# Altium schematic symbol library MCU_Microchip_PIC16.SchLib: 258 symbols (part 2 of 4)
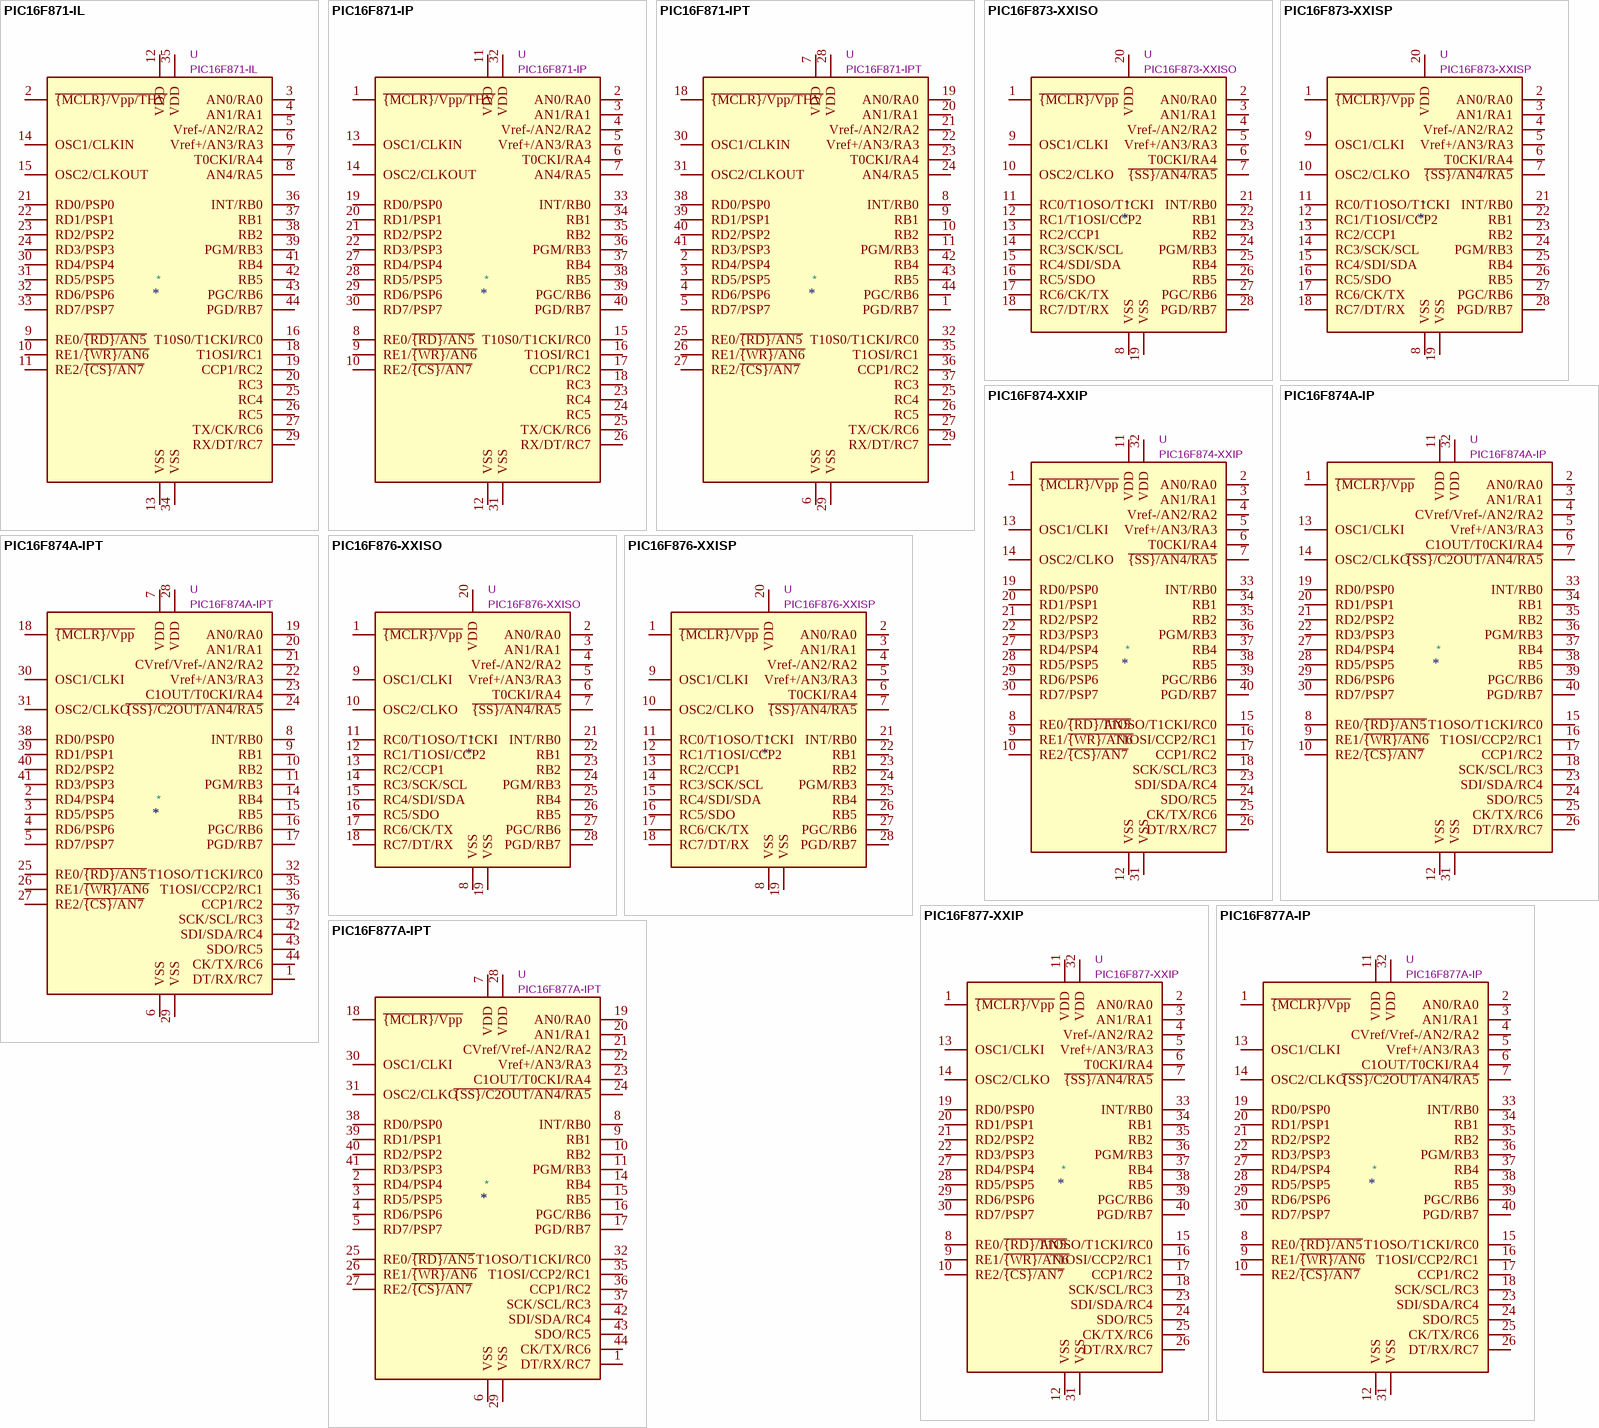
[diagram p20: symbols PIC16F871-IL to PIC16F877A-IPT]

## PIC16F873-XXISO
designator *  value PIC16F873-XXISO  Reference: U
ki_keywords: Flash-Based 8-Bit CMOS Microcontroller; ki_description: PIC16F873, 4K Flash, 192B SRAM, 128B EEPROM, SOIC28; ki_fp_filters: SO*; Datasheet: http://ww1.microchip.com/downloads/en/DeviceDoc/30292C.pdf
pins: 1 ~{{MCLR}/Vpp}, 2 AN0/RA0, 3 AN1/RA1, 4 Vref-/AN2/RA2, 5 Vref+/AN3/RA3, 6 T0CKI/RA4, 7 ~{{SS}/AN4/RA5}, 8 VSS, 9 OSC1/CLKI, 10 OSC2/CLKO, 11 RC0/T1OSO/T1CKI, 12 RC1/T1OSI/CCP2, 13 RC2/CCP1, 14 RC3/SCK/SCL, 15 RC4/SDI/SDA, 16 RC5/SDO, 17 RC6/CK/TX, 18 RC7/DT/RX, 19 VSS, 20 VDD, 21 INT/RB0, 22 RB1, 23 RB2, 24 PGM/RB3, 25 RB4, 26 RB5, 27 PGC/RB6, 28 PGD/RB7

## PIC16F873-XXISP
designator *  value PIC16F873-XXISP  Reference: U
ki_keywords: Flash-Based 8-Bit CMOS Microcontroller; ki_description: PIC16F873,  4K Flash, 192B SRAM, 128B EEPROM, SDIP28; ki_fp_filters: DIP* PDIP*; Datasheet: http://ww1.microchip.com/downloads/en/DeviceDoc/30292C.pdf
pins: 1 ~{{MCLR}/Vpp}, 2 AN0/RA0, 3 AN1/RA1, 4 Vref-/AN2/RA2, 5 Vref+/AN3/RA3, 6 T0CKI/RA4, 7 ~{{SS}/AN4/RA5}, 8 VSS, 9 OSC1/CLKI, 10 OSC2/CLKO, 11 RC0/T1OSO/T1CKI, 12 RC1/T1OSI/CCP2, 13 RC2/CCP1, 14 RC3/SCK/SCL, 15 RC4/SDI/SDA, 16 RC5/SDO, 17 RC6/CK/TX, 18 RC7/DT/RX, 19 VSS, 20 VDD, 21 INT/RB0, 22 RB1, 23 RB2, 24 PGM/RB3, 25 RB4, 26 RB5, 27 PGC/RB6, 28 PGD/RB7

## PIC16F874-XXIP
designator *  value PIC16F874-XXIP  Reference: U
ki_keywords: Flash-Based 8-Bit CMOS Microcontroller; ki_description: PIC16F874, 4K Flash, 192B SRAM, 128B EEPROM, DIP40; ki_fp_filters: DIP* PDIP*; Datasheet: http://ww1.microchip.com/downloads/en/DeviceDoc/30292C.pdf
pins: 1 ~{{MCLR}/Vpp}, 2 AN0/RA0, 3 AN1/RA1, 4 Vref-/AN2/RA2, 5 Vref+/AN3/RA3, 6 T0CKI/RA4, 7 ~{{SS}/AN4/RA5}, 8 RE0/~{{RD}/AN5}, 9 RE1/~{{WR}/AN6}, 10 RE2/~{{CS}/AN7}, 11 VDD, 12 VSS, 13 OSC1/CLKI, 14 OSC2/CLKO, 15 T1OSO/T1CKI/RC0, 16 T1OSI/CCP2/RC1, 17 CCP1/RC2, 18 SCK/SCL/RC3, 19 RD0/PSP0, 20 RD1/PSP1, 21 RD2/PSP2, 22 RD3/PSP3, 23 SDI/SDA/RC4, 24 SDO/RC5, 25 CK/TX/RC6, 26 DT/RX/RC7, 27 RD4/PSP4, 28 RD5/PSP5, 29 RD6/PSP6, 30 RD7/PSP7, 31 VSS, 32 VDD, 33 INT/RB0, 34 RB1, 35 RB2, 36 PGM/RB3, 37 RB4, 38 RB5, 39 PGC/RB6, 40 PGD/RB7

## PIC16F874A-IP
designator *  value PIC16F874A-IP  Reference: U
ki_keywords: Flash-Based 8-Bit CMOS Microcontroller; ki_description: 4W Flash, 192B SRAM, 128B EEPROM, DIP40; ki_fp_filters: DIP* PDIP*; Datasheet: http://ww1.microchip.com/downloads/en/DeviceDoc/39582b.pdf
pins: 1 ~{{MCLR}/Vpp}, 2 AN0/RA0, 3 AN1/RA1, 4 CVref/Vref-/AN2/RA2, 5 Vref+/AN3/RA3, 6 C1OUT/T0CKI/RA4, 7 ~{{SS}/C2OUT/AN4/RA5}, 8 RE0/~{{RD}/AN5}, 9 RE1/~{{WR}/AN6}, 10 RE2/~{{CS}/AN7}, 11 VDD, 12 VSS, 13 OSC1/CLKI, 14 OSC2/CLKO, 15 T1OSO/T1CKI/RC0, 16 T1OSI/CCP2/RC1, 17 CCP1/RC2, 18 SCK/SCL/RC3, 19 RD0/PSP0, 20 RD1/PSP1, 21 RD2/PSP2, 22 RD3/PSP3, 23 SDI/SDA/RC4, 24 SDO/RC5, 25 CK/TX/RC6, 26 DT/RX/RC7, 27 RD4/PSP4, 28 RD5/PSP5, 29 RD6/PSP6, 30 RD7/PSP7, 31 VSS, 32 VDD, 33 INT/RB0, 34 RB1, 35 RB2, 36 PGM/RB3, 37 RB4, 38 RB5, 39 PGC/RB6, 40 PGD/RB7

## PIC16F874A-IPT
designator *  value PIC16F874A-IPT  Reference: U
ki_keywords: Flash-Based 8-Bit CMOS Microcontroller; ki_description: PIC16F874A, 4W Flash, 192B SRAM, 128B EEPROM, TQFP44; ki_fp_filters: TQFP*; Datasheet: http://ww1.microchip.com/downloads/en/DeviceDoc/39582b.pdf
pins: 1 DT/RX/RC7, 2 RD4/PSP4, 3 RD5/PSP5, 4 RD6/PSP6, 5 RD7/PSP7, 6 VSS, 7 VDD, 8 INT/RB0, 9 RB1, 10 RB2, 11 PGM/RB3, 14 RB4, 15 RB5, 16 PGC/RB6, 17 PGD/RB7, 18 ~{{MCLR}/Vpp}, 19 AN0/RA0, 20 AN1/RA1, 21 CVref/Vref-/AN2/RA2, 22 Vref+/AN3/RA3, 23 C1OUT/T0CKI/RA4, 24 ~{{SS}/C2OUT/AN4/RA5}, 25 RE0/~{{RD}/AN5}, 26 RE1/~{{WR}/AN6}, 27 RE2/~{{CS}/AN7}, 28 VDD, 29 VSS, 30 OSC1/CLKI, 31 OSC2/CLKO, 32 T1OSO/T1CKI/RC0, 35 T1OSI/CCP2/RC1, 36 CCP1/RC2, 37 SCK/SCL/RC3, 38 RD0/PSP0, 39 RD1/PSP1, 40 RD2/PSP2, 41 RD3/PSP3, 42 SDI/SDA/RC4, 43 SDO/RC5, 44 CK/TX/RC6

## PIC16F876-XXISO
designator *  value PIC16F876-XXISO  Reference: U
ki_keywords: Flash-Based 8-Bit CMOS Microcontroller; ki_description: PIC16F876, 8K Flash, 386B SRAM, 256B EEPROM, SOIC28; ki_fp_filters: SO*; Datasheet: http://ww1.microchip.com/downloads/en/DeviceDoc/30292C.pdf
pins: 1 ~{{MCLR}/Vpp}, 2 AN0/RA0, 3 AN1/RA1, 4 Vref-/AN2/RA2, 5 Vref+/AN3/RA3, 6 T0CKI/RA4, 7 ~{{SS}/AN4/RA5}, 8 VSS, 9 OSC1/CLKI, 10 OSC2/CLKO, 11 RC0/T1OSO/T1CKI, 12 RC1/T1OSI/CCP2, 13 RC2/CCP1, 14 RC3/SCK/SCL, 15 RC4/SDI/SDA, 16 RC5/SDO, 17 RC6/CK/TX, 18 RC7/DT/RX, 19 VSS, 20 VDD, 21 INT/RB0, 22 RB1, 23 RB2, 24 PGM/RB3, 25 RB4, 26 RB5, 27 PGC/RB6, 28 PGD/RB7

## PIC16F876-XXISP
designator *  value PIC16F876-XXISP  Reference: U
ki_keywords: Flash-Based 8-Bit CMOS Microcontroller; ki_description: PIC16F876, 8K Flash, 386B SRAM, 256B EEPROM, SDIP28; ki_fp_filters: DIP* PDIP*; Datasheet: http://ww1.microchip.com/downloads/en/DeviceDoc/30292C.pdf
pins: 1 ~{{MCLR}/Vpp}, 2 AN0/RA0, 3 AN1/RA1, 4 Vref-/AN2/RA2, 5 Vref+/AN3/RA3, 6 T0CKI/RA4, 7 ~{{SS}/AN4/RA5}, 8 VSS, 9 OSC1/CLKI, 10 OSC2/CLKO, 11 RC0/T1OSO/T1CKI, 12 RC1/T1OSI/CCP2, 13 RC2/CCP1, 14 RC3/SCK/SCL, 15 RC4/SDI/SDA, 16 RC5/SDO, 17 RC6/CK/TX, 18 RC7/DT/RX, 19 VSS, 20 VDD, 21 INT/RB0, 22 RB1, 23 RB2, 24 PGM/RB3, 25 RB4, 26 RB5, 27 PGC/RB6, 28 PGD/RB7

## PIC16F877-XXIP
designator *  value PIC16F877-XXIP  Reference: U
ki_keywords: Flash-Based 8-Bit CMOS Microcontroller; ki_description: PIC16F877, 8K Flash, 386B SRAM, 256B EEPROM, DIP40; ki_fp_filters: DIP* PDIP*; Datasheet: http://ww1.microchip.com/downloads/en/DeviceDoc/30292C.pdf
pins: 1 ~{{MCLR}/Vpp}, 2 AN0/RA0, 3 AN1/RA1, 4 Vref-/AN2/RA2, 5 Vref+/AN3/RA3, 6 T0CKI/RA4, 7 ~{{SS}/AN4/RA5}, 8 RE0/~{{RD}/AN5}, 9 RE1/~{{WR}/AN6}, 10 RE2/~{{CS}/AN7}, 11 VDD, 12 VSS, 13 OSC1/CLKI, 14 OSC2/CLKO, 15 T1OSO/T1CKI/RC0, 16 T1OSI/CCP2/RC1, 17 CCP1/RC2, 18 SCK/SCL/RC3, 19 RD0/PSP0, 20 RD1/PSP1, 21 RD2/PSP2, 22 RD3/PSP3, 23 SDI/SDA/RC4, 24 SDO/RC5, 25 CK/TX/RC6, 26 DT/RX/RC7, 27 RD4/PSP4, 28 RD5/PSP5, 29 RD6/PSP6, 30 RD7/PSP7, 31 VSS, 32 VDD, 33 INT/RB0, 34 RB1, 35 RB2, 36 PGM/RB3, 37 RB4, 38 RB5, 39 PGC/RB6, 40 PGD/RB7

## PIC16F877A-IP
designator *  value PIC16F877A-IP  Reference: U
ki_keywords: Flash-Based 8-Bit CMOS Microcontroller; ki_description: 8W Flash, 386B SRAM, 256B EEPROM, DIP40; ki_fp_filters: DIP* PDIP*; Datasheet: http://ww1.microchip.com/downloads/en/DeviceDoc/39582b.pdf
pins: 1 ~{{MCLR}/Vpp}, 2 AN0/RA0, 3 AN1/RA1, 4 CVref/Vref-/AN2/RA2, 5 Vref+/AN3/RA3, 6 C1OUT/T0CKI/RA4, 7 ~{{SS}/C2OUT/AN4/RA5}, 8 RE0/~{{RD}/AN5}, 9 RE1/~{{WR}/AN6}, 10 RE2/~{{CS}/AN7}, 11 VDD, 12 VSS, 13 OSC1/CLKI, 14 OSC2/CLKO, 15 T1OSO/T1CKI/RC0, 16 T1OSI/CCP2/RC1, 17 CCP1/RC2, 18 SCK/SCL/RC3, 19 RD0/PSP0, 20 RD1/PSP1, 21 RD2/PSP2, 22 RD3/PSP3, 23 SDI/SDA/RC4, 24 SDO/RC5, 25 CK/TX/RC6, 26 DT/RX/RC7, 27 RD4/PSP4, 28 RD5/PSP5, 29 RD6/PSP6, 30 RD7/PSP7, 31 VSS, 32 VDD, 33 INT/RB0, 34 RB1, 35 RB2, 36 PGM/RB3, 37 RB4, 38 RB5, 39 PGC/RB6, 40 PGD/RB7

## PIC16F877A-IPT
designator *  value PIC16F877A-IPT  Reference: U
ki_keywords: Flash-Based 8-Bit CMOS Microcontroller; ki_description: PIC16F874A, 4W Flash, 192B SRAM, 128B EEPROM, TQFP44; ki_fp_filters: TQFP*
pins: 1 DT/RX/RC7, 2 RD4/PSP4, 3 RD5/PSP5, 4 RD6/PSP6, 5 RD7/PSP7, 6 VSS, 7 VDD, 8 INT/RB0, 9 RB1, 10 RB2, 11 PGM/RB3, 14 RB4, 15 RB5, 16 PGC/RB6, 17 PGD/RB7, 18 ~{{MCLR}/Vpp}, 19 AN0/RA0, 20 AN1/RA1, 21 CVref/Vref-/AN2/RA2, 22 Vref+/AN3/RA3, 23 C1OUT/T0CKI/RA4, 24 ~{{SS}/C2OUT/AN4/RA5}, 25 RE0/~{{RD}/AN5}, 26 RE1/~{{WR}/AN6}, 27 RE2/~{{CS}/AN7}, 28 VDD, 29 VSS, 30 OSC1/CLKI, 31 OSC2/CLKO, 32 T1OSO/T1CKI/RC0, 35 T1OSI/CCP2/RC1, 36 CCP1/RC2, 37 SCK/SCL/RC3, 38 RD0/PSP0, 39 RD1/PSP1, 40 RD2/PSP2, 41 RD3/PSP3, 42 SDI/SDA/RC4, 43 SDO/RC5, 44 CK/TX/RC6

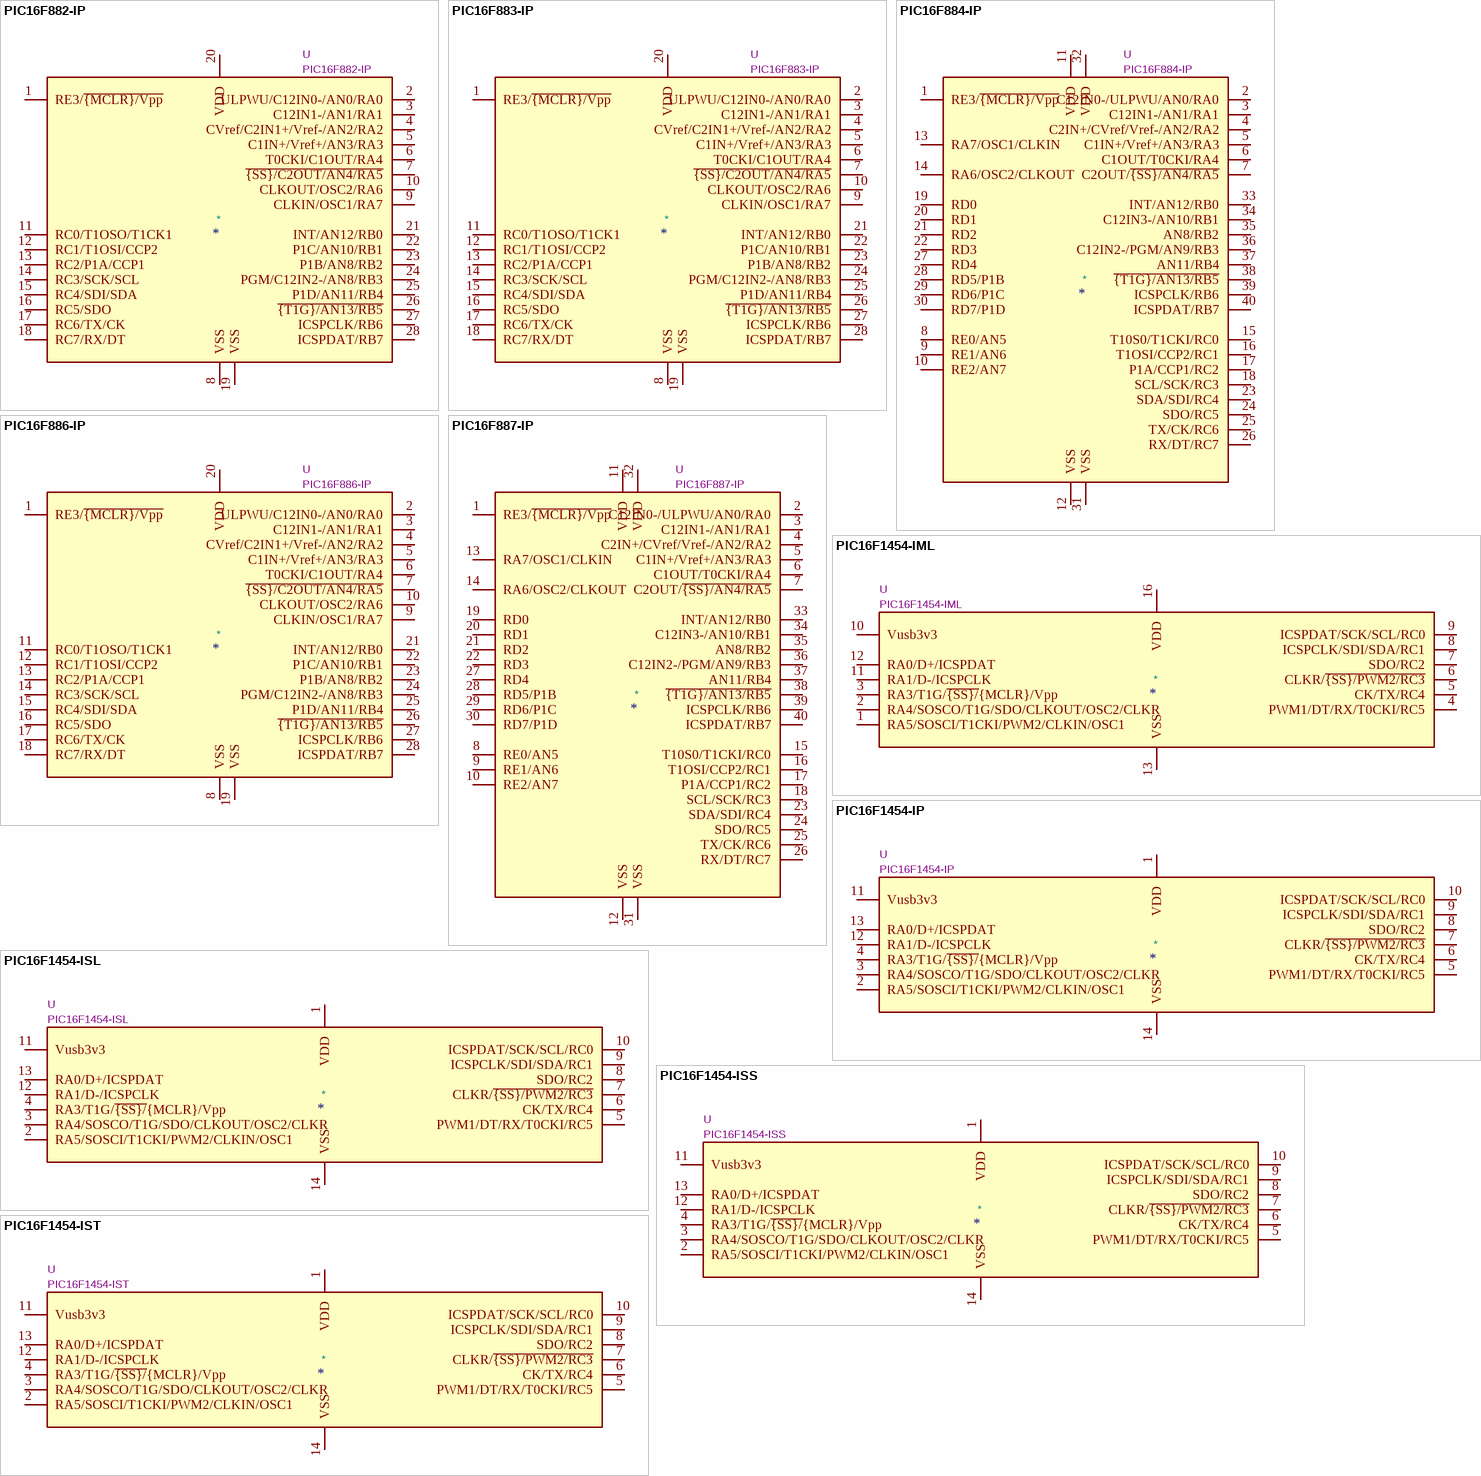
[diagram p6: symbols PIC16F882-IP to PIC16F1454-IST]

## PIC16F882-IP
designator *  value PIC16F882-IP  Reference: U
ki_keywords: Flash-Based 8-Bit CMOS Microcontroller; ki_description: 2K Flash, 128B SRAM, 128B EEPROM, XLP, DIP28; ki_fp_filters: DIP* PDIP*; Datasheet: http://ww1.microchip.com/downloads/en/DeviceDoc/41291D.pdf
pins: 1 RE3/~{{MCLR}/Vpp}, 2 ULPWU/C12IN0-/AN0/RA0, 3 C12IN1-/AN1/RA1, 4 CVref/C2IN1+/Vref-/AN2/RA2, 5 C1IN+/Vref+/AN3/RA3, 6 T0CKI/C1OUT/RA4, 7 ~{{SS}/C2OUT/AN4/RA5}, 8 VSS, 9 CLKIN/OSC1/RA7, 10 CLKOUT/OSC2/RA6, 11 RC0/T1OSO/T1CK1, 12 RC1/T1OSI/CCP2, 13 RC2/P1A/CCP1, 14 RC3/SCK/SCL, 15 RC4/SDI/SDA, 16 RC5/SDO, 17 RC6/TX/CK, 18 RC7/RX/DT, 19 VSS, 20 VDD, 21 INT/AN12/RB0, 22 P1C/AN10/RB1, 23 P1B/AN8/RB2, 24 PGM/C12IN2-/AN8/RB3, 25 P1D/AN11/RB4, 26 ~{{T1G}/AN13/RB5}, 27 ICSPCLK/RB6, 28 ICSPDAT/RB7

## PIC16F883-IP
designator *  value PIC16F883-IP  Reference: U
ki_keywords: Flash-Based 8-Bit CMOS Microcontroller; ki_description: 4K Flash, 256B SRAM, 256B EEPROM, XLP, DIP28; ki_fp_filters: DIP* PDIP*; Datasheet: http://ww1.microchip.com/downloads/en/DeviceDoc/41291D.pdf
pins: 1 RE3/~{{MCLR}/Vpp}, 2 ULPWU/C12IN0-/AN0/RA0, 3 C12IN1-/AN1/RA1, 4 CVref/C2IN1+/Vref-/AN2/RA2, 5 C1IN+/Vref+/AN3/RA3, 6 T0CKI/C1OUT/RA4, 7 ~{{SS}/C2OUT/AN4/RA5}, 8 VSS, 9 CLKIN/OSC1/RA7, 10 CLKOUT/OSC2/RA6, 11 RC0/T1OSO/T1CK1, 12 RC1/T1OSI/CCP2, 13 RC2/P1A/CCP1, 14 RC3/SCK/SCL, 15 RC4/SDI/SDA, 16 RC5/SDO, 17 RC6/TX/CK, 18 RC7/RX/DT, 19 VSS, 20 VDD, 21 INT/AN12/RB0, 22 P1C/AN10/RB1, 23 P1B/AN8/RB2, 24 PGM/C12IN2-/AN8/RB3, 25 P1D/AN11/RB4, 26 ~{{T1G}/AN13/RB5}, 27 ICSPCLK/RB6, 28 ICSPDAT/RB7

## PIC16F884-IP
designator *  value PIC16F884-IP  Reference: U
ki_keywords: Flash-Based 8-Bit CMOS Microcontroller; ki_description: 4K Flash, 256B SRAM, 256B EEPROM, DIP40; ki_fp_filters: DIP* PDIP*; Datasheet: http://ww1.microchip.com/downloads/en/DeviceDoc/41291D.pdf
pins: 1 RE3/~{{MCLR}/Vpp}, 2 C12IN0-/ULPWU/AN0/RA0, 3 C12IN1-/AN1/RA1, 4 C2IN+/CVref/Vref-/AN2/RA2, 5 C1IN+/Vref+/AN3/RA3, 6 C1OUT/T0CKI/RA4, 7 C2OUT/~{{SS}/AN4/RA5}, 8 RE0/AN5, 9 RE1/AN6, 10 RE2/AN7, 11 VDD, 12 VSS, 13 RA7/OSC1/CLKIN, 14 RA6/OSC2/CLKOUT, 15 T10S0/T1CKI/RC0, 16 T1OSI/CCP2/RC1, 17 P1A/CCP1/RC2, 18 SCL/SCK/RC3, 19 RD0, 20 RD1, 21 RD2, 22 RD3, 23 SDA/SDI/RC4, 24 SDO/RC5, 25 TX/CK/RC6, 26 RX/DT/RC7, 27 RD4, 28 RD5/P1B, 29 RD6/P1C, 30 RD7/P1D, 31 VSS, 32 VDD, 33 INT/AN12/RB0, 34 C12IN3-/AN10/RB1, 35 AN8/RB2, 36 C12IN2-/PGM/AN9/RB3, 37 AN11/RB4, 38 ~{{T1G}/AN13/RB5}, 39 ICSPCLK/RB6, 40 ICSPDAT/RB7

## PIC16F886-IP
designator *  value PIC16F886-IP  Reference: U
ki_keywords: Flash-Based 8-Bit CMOS Microcontroller; ki_description: 8K Flash, 256B SRAM, 256B EEPROM, XLP, DIP28; ki_fp_filters: DIP* PDIP*; Datasheet: http://ww1.microchip.com/downloads/en/DeviceDoc/41291D.pdf
pins: 1 RE3/~{{MCLR}/Vpp}, 2 ULPWU/C12IN0-/AN0/RA0, 3 C12IN1-/AN1/RA1, 4 CVref/C2IN1+/Vref-/AN2/RA2, 5 C1IN+/Vref+/AN3/RA3, 6 T0CKI/C1OUT/RA4, 7 ~{{SS}/C2OUT/AN4/RA5}, 8 VSS, 9 CLKIN/OSC1/RA7, 10 CLKOUT/OSC2/RA6, 11 RC0/T1OSO/T1CK1, 12 RC1/T1OSI/CCP2, 13 RC2/P1A/CCP1, 14 RC3/SCK/SCL, 15 RC4/SDI/SDA, 16 RC5/SDO, 17 RC6/TX/CK, 18 RC7/RX/DT, 19 VSS, 20 VDD, 21 INT/AN12/RB0, 22 P1C/AN10/RB1, 23 P1B/AN8/RB2, 24 PGM/C12IN2-/AN8/RB3, 25 P1D/AN11/RB4, 26 ~{{T1G}/AN13/RB5}, 27 ICSPCLK/RB6, 28 ICSPDAT/RB7

## PIC16F887-IP
designator *  value PIC16F887-IP  Reference: U
ki_keywords: Flash-Based 8-Bit CMOS Microcontroller; ki_description: 8K Flash, 368B SRAM, 256B EEPROM, DIP40; ki_fp_filters: DIP* PDIP*; Datasheet: http://ww1.microchip.com/downloads/en/DeviceDoc/41291D.pdf
pins: 1 RE3/~{{MCLR}/Vpp}, 2 C12IN0-/ULPWU/AN0/RA0, 3 C12IN1-/AN1/RA1, 4 C2IN+/CVref/Vref-/AN2/RA2, 5 C1IN+/Vref+/AN3/RA3, 6 C1OUT/T0CKI/RA4, 7 C2OUT/~{{SS}/AN4/RA5}, 8 RE0/AN5, 9 RE1/AN6, 10 RE2/AN7, 11 VDD, 12 VSS, 13 RA7/OSC1/CLKIN, 14 RA6/OSC2/CLKOUT, 15 T10S0/T1CKI/RC0, 16 T1OSI/CCP2/RC1, 17 P1A/CCP1/RC2, 18 SCL/SCK/RC3, 19 RD0, 20 RD1, 21 RD2, 22 RD3, 23 SDA/SDI/RC4, 24 SDO/RC5, 25 TX/CK/RC6, 26 RX/DT/RC7, 27 RD4, 28 RD5/P1B, 29 RD6/P1C, 30 RD7/P1D, 31 VSS, 32 VDD, 33 INT/AN12/RB0, 34 C12IN3-/AN10/RB1, 35 AN8/RB2, 36 C12IN2-/PGM/AN9/RB3, 37 AN11/RB4, 38 ~{{T1G}/AN13/RB5}, 39 ICSPCLK/RB6, 40 ICSPDAT/RB7

## PIC16F1454-IML
designator *  value PIC16F1454-IML  Reference: U
ki_keywords: FLASH-Based 8-Bit CMOS Microcontroller Low Power; ki_description: PIC16F1454, 8192W FLASH, 1024B SRAM, QFN-16; ki_fp_filters: QFN*; Datasheet: http://ww1.microchip.com/downloads/en/DeviceDoc/41639A.pdf
pins: 1 RA5/SOSCI/T1CKI/PWM2/CLKIN/OSC1, 2 RA4/SOSCO/T1G/SDO/CLKOUT/OSC2/CLKR, 3 RA3/T1G/~{{SS}/}{MCLR}/Vpp, 4 PWM1/DT/RX/T0CKI/RC5, 5 CK/TX/RC4, 6 CLKR/~{{SS}/PWM2/RC3}, 7 SDO/RC2, 8 ICSPCLK/SDI/SDA/RC1, 9 ICSPDAT/SCK/SCL/RC0, 10 Vusb3v3, 11 RA1/D-/ICSPCLK, 12 RA0/D+/ICSPDAT, 13 VSS, 16 VDD

## PIC16F1454-IP
designator *  value PIC16F1454-IP  Reference: U
ki_keywords: FLASH-Based 8-Bit CMOS Microcontroller Low Power; ki_description: 8192W FLASH, 1024B SRAM, PDIP-14; ki_fp_filters: DIP* PDIP* SO*; Datasheet: http://ww1.microchip.com/downloads/en/DeviceDoc/41639A.pdf
pins: 1 VDD, 2 RA5/SOSCI/T1CKI/PWM2/CLKIN/OSC1, 3 RA4/SOSCO/T1G/SDO/CLKOUT/OSC2/CLKR, 4 RA3/T1G/~{{SS}/}{MCLR}/Vpp, 5 PWM1/DT/RX/T0CKI/RC5, 6 CK/TX/RC4, 7 CLKR/~{{SS}/PWM2/RC3}, 8 SDO/RC2, 9 ICSPCLK/SDI/SDA/RC1, 10 ICSPDAT/SCK/SCL/RC0, 11 Vusb3v3, 12 RA1/D-/ICSPCLK, 13 RA0/D+/ICSPDAT, 14 VSS

## PIC16F1454-ISL
designator *  value PIC16F1454-ISL  Reference: U
ki_keywords: FLASH-Based 8-Bit CMOS Microcontroller Low Power; ki_description: 8192W FLASH, 1024B SRAM, PDIP-14; ki_fp_filters: DIP* PDIP* SO*
pins: 1 VDD, 2 RA5/SOSCI/T1CKI/PWM2/CLKIN/OSC1, 3 RA4/SOSCO/T1G/SDO/CLKOUT/OSC2/CLKR, 4 RA3/T1G/~{{SS}/}{MCLR}/Vpp, 5 PWM1/DT/RX/T0CKI/RC5, 6 CK/TX/RC4, 7 CLKR/~{{SS}/PWM2/RC3}, 8 SDO/RC2, 9 ICSPCLK/SDI/SDA/RC1, 10 ICSPDAT/SCK/SCL/RC0, 11 Vusb3v3, 12 RA1/D-/ICSPCLK, 13 RA0/D+/ICSPDAT, 14 VSS

## PIC16F1454-ISS
designator *  value PIC16F1454-ISS  Reference: U
ki_keywords: FLASH-Based 8-Bit CMOS Microcontroller Low Power; ki_description: 8192W FLASH, 1024B SRAM, PDIP-14; ki_fp_filters: DIP* PDIP* SO*
pins: 1 VDD, 2 RA5/SOSCI/T1CKI/PWM2/CLKIN/OSC1, 3 RA4/SOSCO/T1G/SDO/CLKOUT/OSC2/CLKR, 4 RA3/T1G/~{{SS}/}{MCLR}/Vpp, 5 PWM1/DT/RX/T0CKI/RC5, 6 CK/TX/RC4, 7 CLKR/~{{SS}/PWM2/RC3}, 8 SDO/RC2, 9 ICSPCLK/SDI/SDA/RC1, 10 ICSPDAT/SCK/SCL/RC0, 11 Vusb3v3, 12 RA1/D-/ICSPCLK, 13 RA0/D+/ICSPDAT, 14 VSS

## PIC16F1454-IST
designator *  value PIC16F1454-IST  Reference: U
ki_keywords: FLASH-Based 8-Bit CMOS Microcontroller Low Power; ki_description: 8192W FLASH, 1024B SRAM, PDIP-14; ki_fp_filters: DIP* PDIP* SO*
pins: 1 VDD, 2 RA5/SOSCI/T1CKI/PWM2/CLKIN/OSC1, 3 RA4/SOSCO/T1G/SDO/CLKOUT/OSC2/CLKR, 4 RA3/T1G/~{{SS}/}{MCLR}/Vpp, 5 PWM1/DT/RX/T0CKI/RC5, 6 CK/TX/RC4, 7 CLKR/~{{SS}/PWM2/RC3}, 8 SDO/RC2, 9 ICSPCLK/SDI/SDA/RC1, 10 ICSPDAT/SCK/SCL/RC0, 11 Vusb3v3, 12 RA1/D-/ICSPCLK, 13 RA0/D+/ICSPDAT, 14 VSS

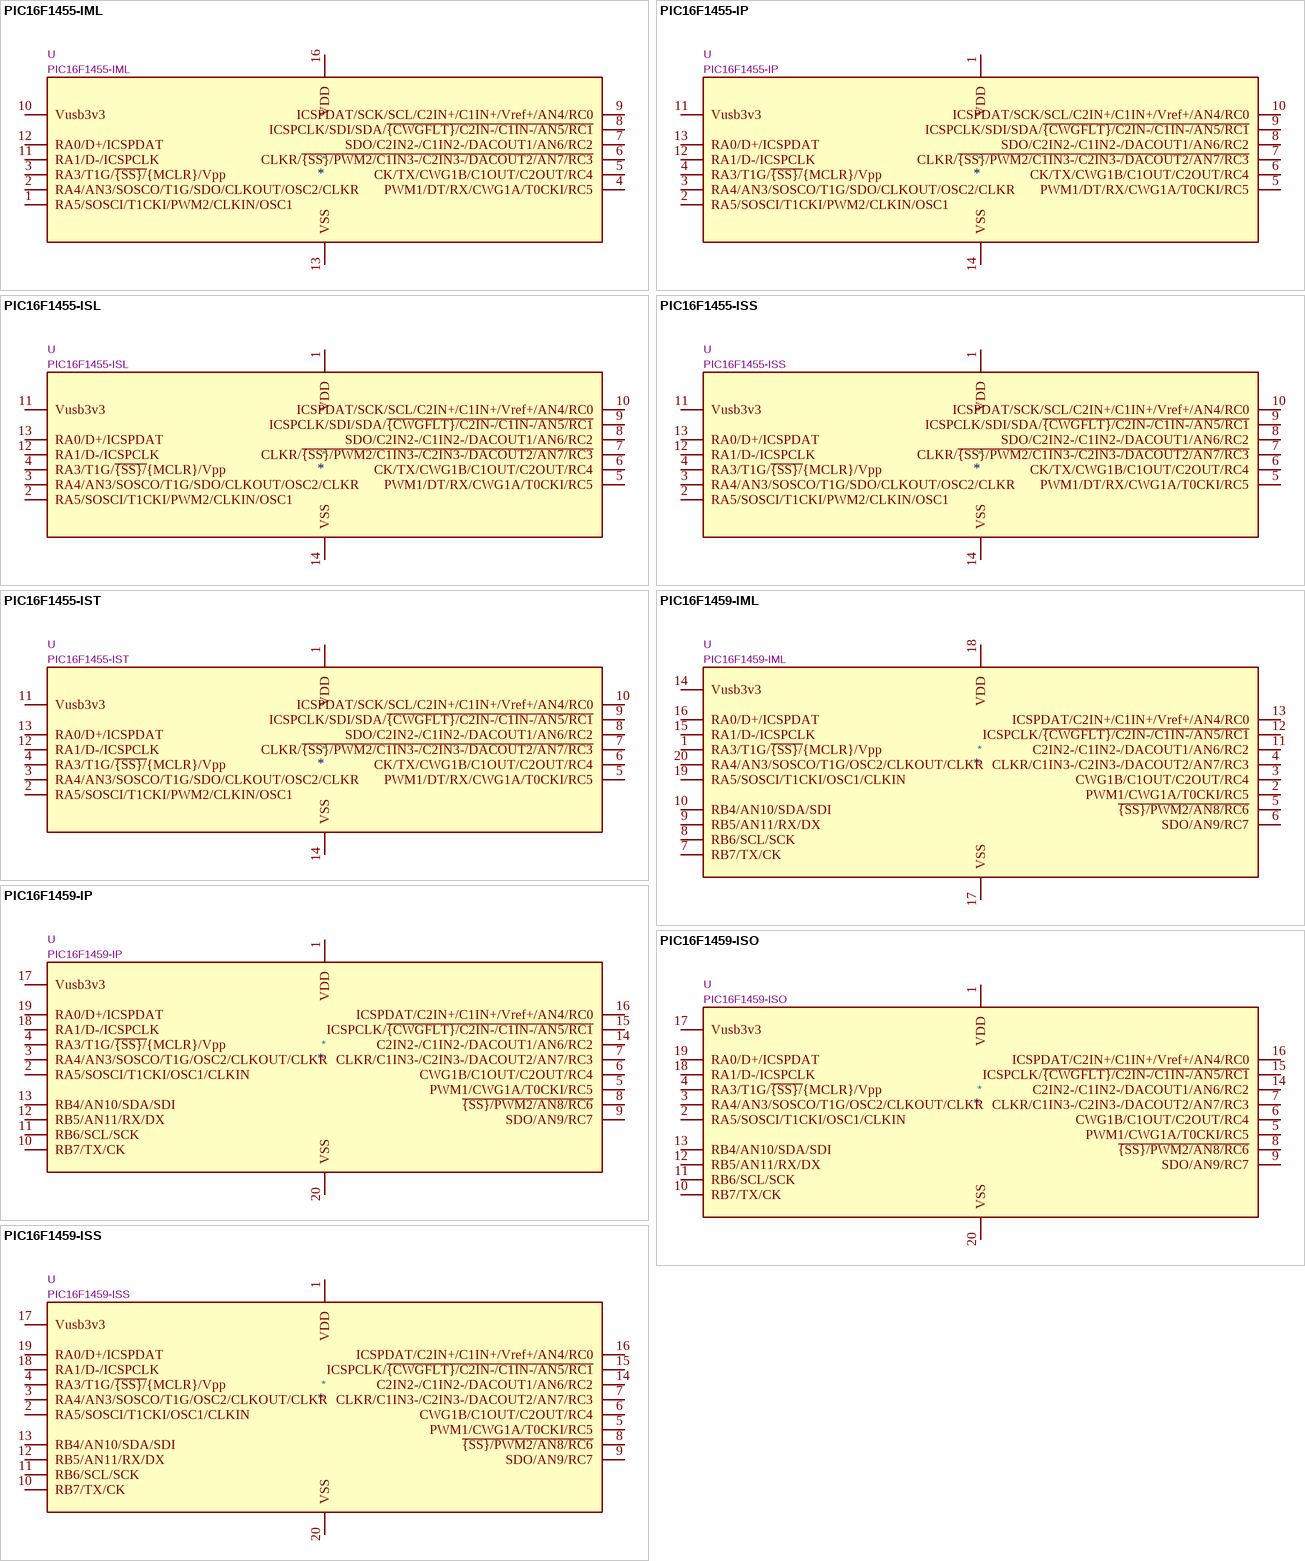
[diagram p7: symbols PIC16F1455-IML to PIC16F1459-ISS]

## PIC16F1455-IML
designator *  value PIC16F1455-IML  Reference: U
ki_keywords: FLASH-Based 8-Bit CMOS Microcontroller Low Power; ki_description: PIC16F1454, 8192W FLASH, 1024B SRAM, QFN-16; ki_fp_filters: QFN*; Datasheet: http://ww1.microchip.com/downloads/en/DeviceDoc/41639A.pdf
pins: 1 RA5/SOSCI/T1CKI/PWM2/CLKIN/OSC1, 2 RA4/AN3/SOSCO/T1G/SDO/CLKOUT/OSC2/CLKR, 3 RA3/T1G/~{{SS}/}{MCLR}/Vpp, 4 PWM1/DT/RX/CWG1A/T0CKI/RC5, 5 CK/TX/CWG1B/C1OUT/C2OUT/RC4, 6 CLKR/~{{SS}/PWM2/C1IN3-/C2IN3-/DACOUT2/AN7/RC3}, 7 SDO/C2IN2-/C1IN2-/DACOUT1/AN6/RC2, 8 ICSPCLK/SDI/SDA/~{{CWGFLT}/C2IN-/C1IN-/AN5/RC1}, 9 ICSPDAT/SCK/SCL/C2IN+/C1IN+/Vref+/AN4/RC0, 10 Vusb3v3, 11 RA1/D-/ICSPCLK, 12 RA0/D+/ICSPDAT, 13 VSS, 16 VDD

## PIC16F1455-IP
designator *  value PIC16F1455-IP  Reference: U
ki_keywords: FLASH-Based 8-Bit CMOS Microcontroller Low Power; ki_description: PIC16F1454, 8192W FLASH, 1024B SRAM, PDIP-14; ki_fp_filters: DIP* PDIP* SO*; Datasheet: http://ww1.microchip.com/downloads/en/DeviceDoc/41639A.pdf
pins: 1 VDD, 2 RA5/SOSCI/T1CKI/PWM2/CLKIN/OSC1, 3 RA4/AN3/SOSCO/T1G/SDO/CLKOUT/OSC2/CLKR, 4 RA3/T1G/~{{SS}/}{MCLR}/Vpp, 5 PWM1/DT/RX/CWG1A/T0CKI/RC5, 6 CK/TX/CWG1B/C1OUT/C2OUT/RC4, 7 CLKR/~{{SS}/PWM2/C1IN3-/C2IN3-/DACOUT2/AN7/RC3}, 8 SDO/C2IN2-/C1IN2-/DACOUT1/AN6/RC2, 9 ICSPCLK/SDI/SDA/~{{CWGFLT}/C2IN-/C1IN-/AN5/RC1}, 10 ICSPDAT/SCK/SCL/C2IN+/C1IN+/Vref+/AN4/RC0, 11 Vusb3v3, 12 RA1/D-/ICSPCLK, 13 RA0/D+/ICSPDAT, 14 VSS

## PIC16F1455-ISL
designator *  value PIC16F1455-ISL  Reference: U
ki_keywords: FLASH-Based 8-Bit CMOS Microcontroller Low Power; ki_description: PIC16F1454, 8192W FLASH, 1024B SRAM, PDIP-14; ki_fp_filters: DIP* PDIP* SO*
pins: 1 VDD, 2 RA5/SOSCI/T1CKI/PWM2/CLKIN/OSC1, 3 RA4/AN3/SOSCO/T1G/SDO/CLKOUT/OSC2/CLKR, 4 RA3/T1G/~{{SS}/}{MCLR}/Vpp, 5 PWM1/DT/RX/CWG1A/T0CKI/RC5, 6 CK/TX/CWG1B/C1OUT/C2OUT/RC4, 7 CLKR/~{{SS}/PWM2/C1IN3-/C2IN3-/DACOUT2/AN7/RC3}, 8 SDO/C2IN2-/C1IN2-/DACOUT1/AN6/RC2, 9 ICSPCLK/SDI/SDA/~{{CWGFLT}/C2IN-/C1IN-/AN5/RC1}, 10 ICSPDAT/SCK/SCL/C2IN+/C1IN+/Vref+/AN4/RC0, 11 Vusb3v3, 12 RA1/D-/ICSPCLK, 13 RA0/D+/ICSPDAT, 14 VSS

## PIC16F1455-ISS
designator *  value PIC16F1455-ISS  Reference: U
ki_keywords: FLASH-Based 8-Bit CMOS Microcontroller Low Power; ki_description: PIC16F1454, 8192W FLASH, 1024B SRAM, PDIP-14; ki_fp_filters: DIP* PDIP* SO*
pins: 1 VDD, 2 RA5/SOSCI/T1CKI/PWM2/CLKIN/OSC1, 3 RA4/AN3/SOSCO/T1G/SDO/CLKOUT/OSC2/CLKR, 4 RA3/T1G/~{{SS}/}{MCLR}/Vpp, 5 PWM1/DT/RX/CWG1A/T0CKI/RC5, 6 CK/TX/CWG1B/C1OUT/C2OUT/RC4, 7 CLKR/~{{SS}/PWM2/C1IN3-/C2IN3-/DACOUT2/AN7/RC3}, 8 SDO/C2IN2-/C1IN2-/DACOUT1/AN6/RC2, 9 ICSPCLK/SDI/SDA/~{{CWGFLT}/C2IN-/C1IN-/AN5/RC1}, 10 ICSPDAT/SCK/SCL/C2IN+/C1IN+/Vref+/AN4/RC0, 11 Vusb3v3, 12 RA1/D-/ICSPCLK, 13 RA0/D+/ICSPDAT, 14 VSS

## PIC16F1455-IST
designator *  value PIC16F1455-IST  Reference: U
ki_keywords: FLASH-Based 8-Bit CMOS Microcontroller Low Power; ki_description: PIC16F1454, 8192W FLASH, 1024B SRAM, PDIP-14; ki_fp_filters: DIP* PDIP* SO*
pins: 1 VDD, 2 RA5/SOSCI/T1CKI/PWM2/CLKIN/OSC1, 3 RA4/AN3/SOSCO/T1G/SDO/CLKOUT/OSC2/CLKR, 4 RA3/T1G/~{{SS}/}{MCLR}/Vpp, 5 PWM1/DT/RX/CWG1A/T0CKI/RC5, 6 CK/TX/CWG1B/C1OUT/C2OUT/RC4, 7 CLKR/~{{SS}/PWM2/C1IN3-/C2IN3-/DACOUT2/AN7/RC3}, 8 SDO/C2IN2-/C1IN2-/DACOUT1/AN6/RC2, 9 ICSPCLK/SDI/SDA/~{{CWGFLT}/C2IN-/C1IN-/AN5/RC1}, 10 ICSPDAT/SCK/SCL/C2IN+/C1IN+/Vref+/AN4/RC0, 11 Vusb3v3, 12 RA1/D-/ICSPCLK, 13 RA0/D+/ICSPDAT, 14 VSS

## PIC16F1459-IML
designator *  value PIC16F1459-IML  Reference: U
ki_keywords: FLASH-Based 8-Bit CMOS Microcontroller Low Power; ki_description: PIC16F1454, 8192W FLASH, 1024B SRAM, QFN-20; ki_fp_filters: QFN*; Datasheet: http://ww1.microchip.com/downloads/en/DeviceDoc/41639A.pdf
pins: 1 RA3/T1G/~{{SS}/}{MCLR}/Vpp, 2 PWM1/CWG1A/T0CKI/RC5, 3 CWG1B/C1OUT/C2OUT/RC4, 4 CLKR/C1IN3-/C2IN3-/DACOUT2/AN7/RC3, 5 ~{{SS}/PWM2/AN8/RC6}, 6 SDO/AN9/RC7, 7 RB7/TX/CK, 8 RB6/SCL/SCK, 9 RB5/AN11/RX/DX, 10 RB4/AN10/SDA/SDI, 11 C2IN2-/C1IN2-/DACOUT1/AN6/RC2, 12 ICSPCLK/~{{CWGFLT}/C2IN-/C1IN-/AN5/RC1}, 13 ICSPDAT/C2IN+/C1IN+/Vref+/AN4/RC0, 14 Vusb3v3, 15 RA1/D-/ICSPCLK, 16 RA0/D+/ICSPDAT, 17 VSS, 18 VDD, 19 RA5/SOSCI/T1CKI/OSC1/CLKIN, 20 RA4/AN3/SOSCO/T1G/OSC2/CLKOUT/CLKR

## PIC16F1459-IP
designator *  value PIC16F1459-IP  Reference: U
ki_keywords: FLASH-Based 8-Bit CMOS Microcontroller Low Power; ki_description: PIC16F1454, 8192W FLASH, 1024B SRAM, PDIP-20; ki_fp_filters: DIP* PDIP* SO*; Datasheet: http://ww1.microchip.com/downloads/en/DeviceDoc/41639A.pdf
pins: 1 VDD, 2 RA5/SOSCI/T1CKI/OSC1/CLKIN, 3 RA4/AN3/SOSCO/T1G/OSC2/CLKOUT/CLKR, 4 RA3/T1G/~{{SS}/}{MCLR}/Vpp, 5 PWM1/CWG1A/T0CKI/RC5, 6 CWG1B/C1OUT/C2OUT/RC4, 7 CLKR/C1IN3-/C2IN3-/DACOUT2/AN7/RC3, 8 ~{{SS}/PWM2/AN8/RC6}, 9 SDO/AN9/RC7, 10 RB7/TX/CK, 11 RB6/SCL/SCK, 12 RB5/AN11/RX/DX, 13 RB4/AN10/SDA/SDI, 14 C2IN2-/C1IN2-/DACOUT1/AN6/RC2, 15 ICSPCLK/~{{CWGFLT}/C2IN-/C1IN-/AN5/RC1}, 16 ICSPDAT/C2IN+/C1IN+/Vref+/AN4/RC0, 17 Vusb3v3, 18 RA1/D-/ICSPCLK, 19 RA0/D+/ICSPDAT, 20 VSS

## PIC16F1459-ISO
designator *  value PIC16F1459-ISO  Reference: U
ki_keywords: FLASH-Based 8-Bit CMOS Microcontroller Low Power; ki_description: PIC16F1454, 8192W FLASH, 1024B SRAM, PDIP-20; ki_fp_filters: DIP* PDIP* SO*
pins: 1 VDD, 2 RA5/SOSCI/T1CKI/OSC1/CLKIN, 3 RA4/AN3/SOSCO/T1G/OSC2/CLKOUT/CLKR, 4 RA3/T1G/~{{SS}/}{MCLR}/Vpp, 5 PWM1/CWG1A/T0CKI/RC5, 6 CWG1B/C1OUT/C2OUT/RC4, 7 CLKR/C1IN3-/C2IN3-/DACOUT2/AN7/RC3, 8 ~{{SS}/PWM2/AN8/RC6}, 9 SDO/AN9/RC7, 10 RB7/TX/CK, 11 RB6/SCL/SCK, 12 RB5/AN11/RX/DX, 13 RB4/AN10/SDA/SDI, 14 C2IN2-/C1IN2-/DACOUT1/AN6/RC2, 15 ICSPCLK/~{{CWGFLT}/C2IN-/C1IN-/AN5/RC1}, 16 ICSPDAT/C2IN+/C1IN+/Vref+/AN4/RC0, 17 Vusb3v3, 18 RA1/D-/ICSPCLK, 19 RA0/D+/ICSPDAT, 20 VSS

## PIC16F1459-ISS
designator *  value PIC16F1459-ISS  Reference: U
ki_keywords: FLASH-Based 8-Bit CMOS Microcontroller Low Power; ki_description: PIC16F1454, 8192W FLASH, 1024B SRAM, PDIP-20; ki_fp_filters: DIP* PDIP* SO*
pins: 1 VDD, 2 RA5/SOSCI/T1CKI/OSC1/CLKIN, 3 RA4/AN3/SOSCO/T1G/OSC2/CLKOUT/CLKR, 4 RA3/T1G/~{{SS}/}{MCLR}/Vpp, 5 PWM1/CWG1A/T0CKI/RC5, 6 CWG1B/C1OUT/C2OUT/RC4, 7 CLKR/C1IN3-/C2IN3-/DACOUT2/AN7/RC3, 8 ~{{SS}/PWM2/AN8/RC6}, 9 SDO/AN9/RC7, 10 RB7/TX/CK, 11 RB6/SCL/SCK, 12 RB5/AN11/RX/DX, 13 RB4/AN10/SDA/SDI, 14 C2IN2-/C1IN2-/DACOUT1/AN6/RC2, 15 ICSPCLK/~{{CWGFLT}/C2IN-/C1IN-/AN5/RC1}, 16 ICSPDAT/C2IN+/C1IN+/Vref+/AN4/RC0, 17 Vusb3v3, 18 RA1/D-/ICSPCLK, 19 RA0/D+/ICSPDAT, 20 VSS

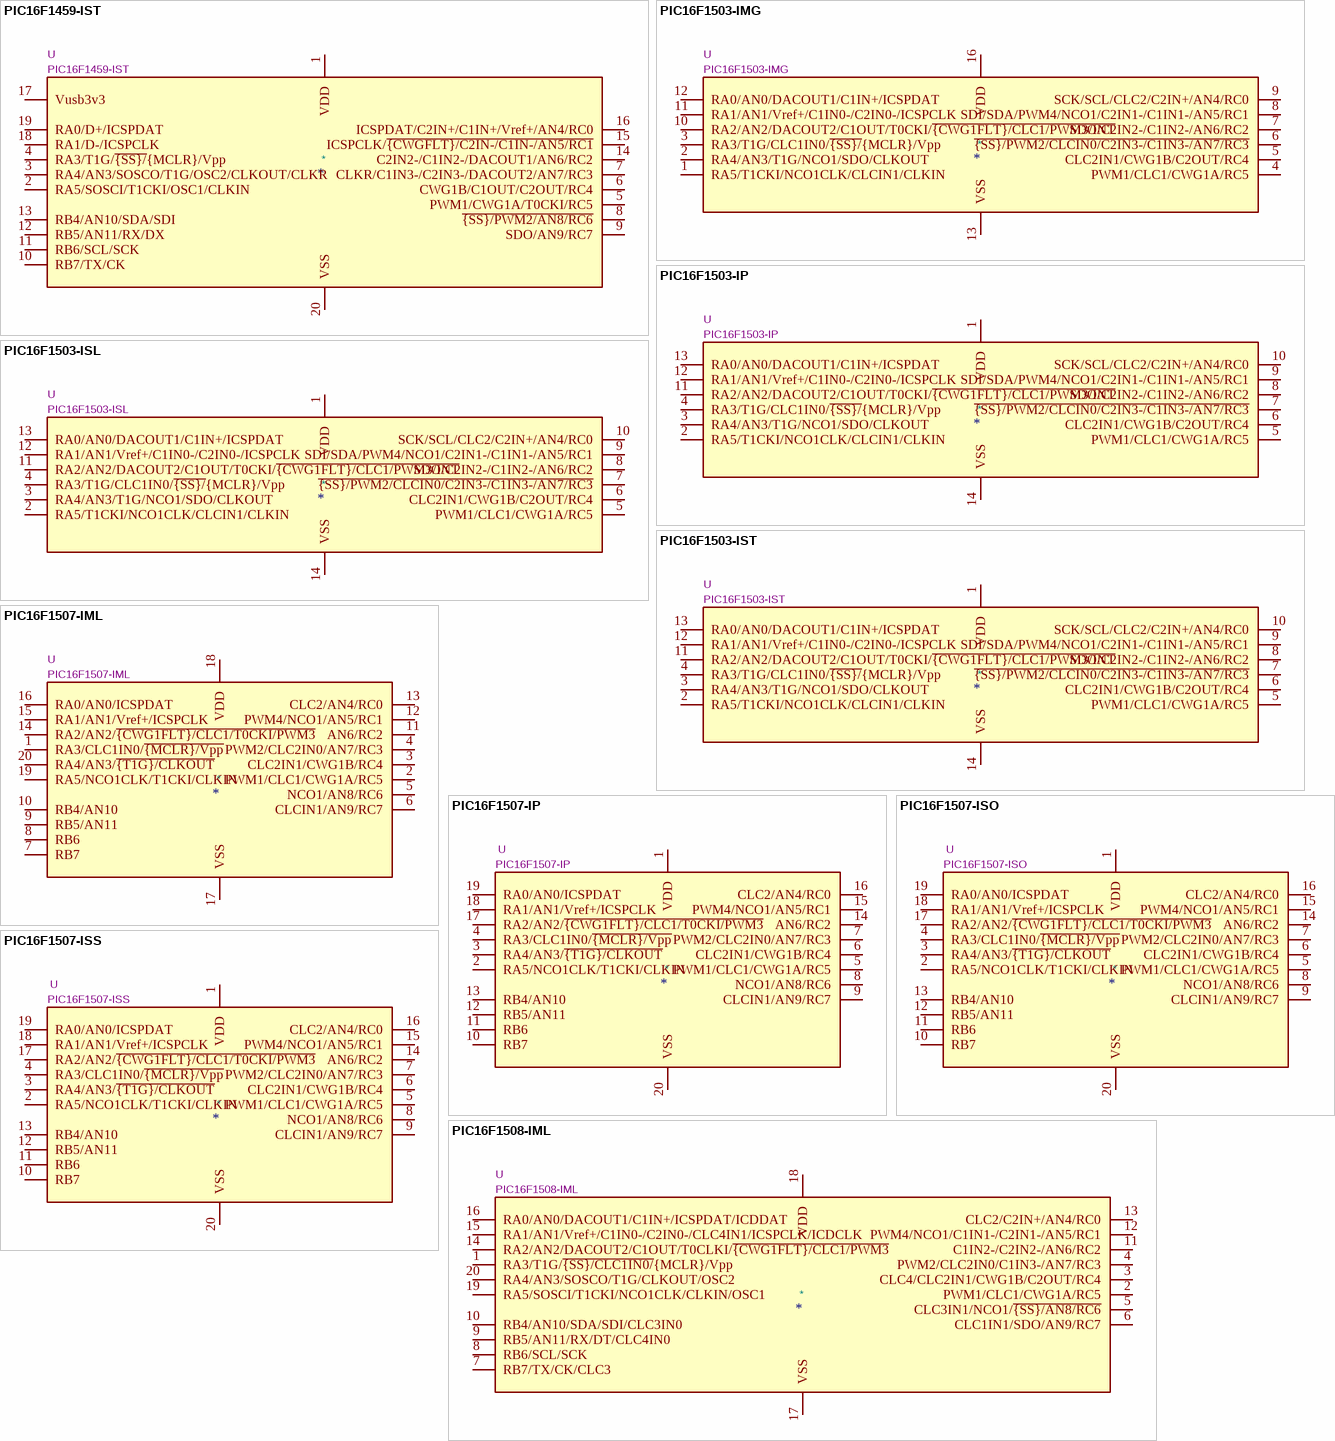
[diagram p8: symbols PIC16F1459-IST to PIC16F1508-IML]

## PIC16F1459-IST
designator *  value PIC16F1459-IST  Reference: U
ki_keywords: FLASH-Based 8-Bit CMOS Microcontroller Low Power; ki_description: PIC16F1454, 8192W FLASH, 1024B SRAM, PDIP-20; ki_fp_filters: DIP* PDIP* SO*
pins: 1 VDD, 2 RA5/SOSCI/T1CKI/OSC1/CLKIN, 3 RA4/AN3/SOSCO/T1G/OSC2/CLKOUT/CLKR, 4 RA3/T1G/~{{SS}/}{MCLR}/Vpp, 5 PWM1/CWG1A/T0CKI/RC5, 6 CWG1B/C1OUT/C2OUT/RC4, 7 CLKR/C1IN3-/C2IN3-/DACOUT2/AN7/RC3, 8 ~{{SS}/PWM2/AN8/RC6}, 9 SDO/AN9/RC7, 10 RB7/TX/CK, 11 RB6/SCL/SCK, 12 RB5/AN11/RX/DX, 13 RB4/AN10/SDA/SDI, 14 C2IN2-/C1IN2-/DACOUT1/AN6/RC2, 15 ICSPCLK/~{{CWGFLT}/C2IN-/C1IN-/AN5/RC1}, 16 ICSPDAT/C2IN+/C1IN+/Vref+/AN4/RC0, 17 Vusb3v3, 18 RA1/D-/ICSPCLK, 19 RA0/D+/ICSPDAT, 20 VSS

## PIC16F1503-IMG
designator *  value PIC16F1503-IMG  Reference: U
ki_keywords: FLASH-Based 8-Bit CMOS Microcontroller Low Power; ki_description: PIC16F1503, 2048W FLASH, 128B SRAM, QFN-16; ki_fp_filters: QFN*; Datasheet: http://ww1.microchip.com/downloads/en/DeviceDoc/41607A.pdf
pins: 1 RA5/T1CKI/NCO1CLK/CLCIN1/CLKIN, 2 RA4/AN3/T1G/NCO1/SDO/CLKOUT, 3 RA3/T1G/CLC1IN0/~{{SS}/}{MCLR}/Vpp, 4 PWM1/CLC1/CWG1A/RC5, 5 CLC2IN1/CWG1B/C2OUT/RC4, 6 ~{{SS}/PWM2/CLCIN0/C2IN3-/C1IN3-/AN7/RC3}, 7 SDO/C2IN2-/C1IN2-/AN6/RC2, 8 SDI/SDA/PWM4/NCO1/C2IN1-/C1IN1-/AN5/RC1, 9 SCK/SCL/CLC2/C2IN+/AN4/RC0, 10 RA2/AN2/DACOUT2/C1OUT/T0CKI/~{{CWG1FLT}/CLC1/PWM3/INT}, 11 RA1/AN1/Vref+/C1IN0-/C2IN0-/ICSPCLK, 12 RA0/AN0/DACOUT1/C1IN+/ICSPDAT, 13 VSS, 16 VDD

## PIC16F1503-IP
designator *  value PIC16F1503-IP  Reference: U
ki_keywords: FLASH-Based 8-Bit CMOS Microcontroller Low Power; ki_description: 2048W FLASH, 128B SRAM, PDIP-14; ki_fp_filters: DIP* PDIP* SO*; Datasheet: http://ww1.microchip.com/downloads/en/DeviceDoc/41607A.pdf
pins: 1 VDD, 2 RA5/T1CKI/NCO1CLK/CLCIN1/CLKIN, 3 RA4/AN3/T1G/NCO1/SDO/CLKOUT, 4 RA3/T1G/CLC1IN0/~{{SS}/}{MCLR}/Vpp, 5 PWM1/CLC1/CWG1A/RC5, 6 CLC2IN1/CWG1B/C2OUT/RC4, 7 ~{{SS}/PWM2/CLCIN0/C2IN3-/C1IN3-/AN7/RC3}, 8 SDO/C2IN2-/C1IN2-/AN6/RC2, 9 SDI/SDA/PWM4/NCO1/C2IN1-/C1IN1-/AN5/RC1, 10 SCK/SCL/CLC2/C2IN+/AN4/RC0, 11 RA2/AN2/DACOUT2/C1OUT/T0CKI/~{{CWG1FLT}/CLC1/PWM3/INT}, 12 RA1/AN1/Vref+/C1IN0-/C2IN0-/ICSPCLK, 13 RA0/AN0/DACOUT1/C1IN+/ICSPDAT, 14 VSS

## PIC16F1503-ISL
designator *  value PIC16F1503-ISL  Reference: U
ki_keywords: FLASH-Based 8-Bit CMOS Microcontroller Low Power; ki_description: PIC16F1503, 2048W FLASH, 128B SRAM, SO-14; ki_fp_filters: DIP* PDIP* SO*; Datasheet: http://ww1.microchip.com/downloads/en/DeviceDoc/41607A.pdf
pins: 1 VDD, 2 RA5/T1CKI/NCO1CLK/CLCIN1/CLKIN, 3 RA4/AN3/T1G/NCO1/SDO/CLKOUT, 4 RA3/T1G/CLC1IN0/~{{SS}/}{MCLR}/Vpp, 5 PWM1/CLC1/CWG1A/RC5, 6 CLC2IN1/CWG1B/C2OUT/RC4, 7 ~{{SS}/PWM2/CLCIN0/C2IN3-/C1IN3-/AN7/RC3}, 8 SDO/C2IN2-/C1IN2-/AN6/RC2, 9 SDI/SDA/PWM4/NCO1/C2IN1-/C1IN1-/AN5/RC1, 10 SCK/SCL/CLC2/C2IN+/AN4/RC0, 11 RA2/AN2/DACOUT2/C1OUT/T0CKI/~{{CWG1FLT}/CLC1/PWM3/INT}, 12 RA1/AN1/Vref+/C1IN0-/C2IN0-/ICSPCLK, 13 RA0/AN0/DACOUT1/C1IN+/ICSPDAT, 14 VSS

## PIC16F1503-IST
designator *  value PIC16F1503-IST  Reference: U
ki_keywords: FLASH-Based 8-Bit CMOS Microcontroller Low Power; ki_description: PIC16F1503, 2048W FLASH, 128B SRAM, TSSOP-14; ki_fp_filters: DIP* PDIP* SO*; Datasheet: http://ww1.microchip.com/downloads/en/DeviceDoc/41607A.pdf
pins: 1 VDD, 2 RA5/T1CKI/NCO1CLK/CLCIN1/CLKIN, 3 RA4/AN3/T1G/NCO1/SDO/CLKOUT, 4 RA3/T1G/CLC1IN0/~{{SS}/}{MCLR}/Vpp, 5 PWM1/CLC1/CWG1A/RC5, 6 CLC2IN1/CWG1B/C2OUT/RC4, 7 ~{{SS}/PWM2/CLCIN0/C2IN3-/C1IN3-/AN7/RC3}, 8 SDO/C2IN2-/C1IN2-/AN6/RC2, 9 SDI/SDA/PWM4/NCO1/C2IN1-/C1IN1-/AN5/RC1, 10 SCK/SCL/CLC2/C2IN+/AN4/RC0, 11 RA2/AN2/DACOUT2/C1OUT/T0CKI/~{{CWG1FLT}/CLC1/PWM3/INT}, 12 RA1/AN1/Vref+/C1IN0-/C2IN0-/ICSPCLK, 13 RA0/AN0/DACOUT1/C1IN+/ICSPDAT, 14 VSS

## PIC16F1507-IML
designator *  value PIC16F1507-IML  Reference: U
ki_keywords: FLASH-Based 8-Bit CMOS Microcontroller Low Power; ki_description: PIC16F1507, 2048W FLASH, 128B SRAM, QFN-20; ki_fp_filters: MLF*; Datasheet: http://ww1.microchip.com/downloads/en/DeviceDoc/41586A.pdf
pins: 1 RA3/CLC1IN0/~{{MCLR}/Vpp}, 2 PWM1/CLC1/CWG1A/RC5, 3 CLC2IN1/CWG1B/RC4, 4 PWM2/CLC2IN0/AN7/RC3, 5 NCO1/AN8/RC6, 6 CLCIN1/AN9/RC7, 7 RB7, 8 RB6, 9 RB5/AN11, 10 RB4/AN10, 11 AN6/RC2, 12 PWM4/NCO1/AN5/RC1, 13 CLC2/AN4/RC0, 14 RA2/AN2/~{{CWG1FLT}/CLC1/T0CKI/PWM3}, 15 RA1/AN1/Vref+/ICSPCLK, 16 RA0/AN0/ICSPDAT, 17 VSS, 18 VDD, 19 RA5/NCO1CLK/T1CKI/CLKIN, 20 RA4/AN3/~{{T1G}/CLKOUT}

## PIC16F1507-IP
designator *  value PIC16F1507-IP  Reference: U
ki_keywords: FLASH-Based 8-Bit CMOS Microcontroller Low Power; ki_description: 2048W FLASH, 128B SRAM, PDIP-20; ki_fp_filters: DIP* PDIP* SO* SSOP*; Datasheet: http://ww1.microchip.com/downloads/en/DeviceDoc/41586A.pdf
pins: 1 VDD, 2 RA5/NCO1CLK/T1CKI/CLKIN, 3 RA4/AN3/~{{T1G}/CLKOUT}, 4 RA3/CLC1IN0/~{{MCLR}/Vpp}, 5 PWM1/CLC1/CWG1A/RC5, 6 CLC2IN1/CWG1B/RC4, 7 PWM2/CLC2IN0/AN7/RC3, 8 NCO1/AN8/RC6, 9 CLCIN1/AN9/RC7, 10 RB7, 11 RB6, 12 RB5/AN11, 13 RB4/AN10, 14 AN6/RC2, 15 PWM4/NCO1/AN5/RC1, 16 CLC2/AN4/RC0, 17 RA2/AN2/~{{CWG1FLT}/CLC1/T0CKI/PWM3}, 18 RA1/AN1/Vref+/ICSPCLK, 19 RA0/AN0/ICSPDAT, 20 VSS

## PIC16F1507-ISO
designator *  value PIC16F1507-ISO  Reference: U
ki_keywords: FLASH-Based 8-Bit CMOS Microcontroller Low Power; ki_description: PIC16F1507, 2048W FLASH, 128B SRAM, SO-20; ki_fp_filters: DIP* PDIP* SO* SSOP*; Datasheet: http://ww1.microchip.com/downloads/en/DeviceDoc/41586A.pdf
pins: 1 VDD, 2 RA5/NCO1CLK/T1CKI/CLKIN, 3 RA4/AN3/~{{T1G}/CLKOUT}, 4 RA3/CLC1IN0/~{{MCLR}/Vpp}, 5 PWM1/CLC1/CWG1A/RC5, 6 CLC2IN1/CWG1B/RC4, 7 PWM2/CLC2IN0/AN7/RC3, 8 NCO1/AN8/RC6, 9 CLCIN1/AN9/RC7, 10 RB7, 11 RB6, 12 RB5/AN11, 13 RB4/AN10, 14 AN6/RC2, 15 PWM4/NCO1/AN5/RC1, 16 CLC2/AN4/RC0, 17 RA2/AN2/~{{CWG1FLT}/CLC1/T0CKI/PWM3}, 18 RA1/AN1/Vref+/ICSPCLK, 19 RA0/AN0/ICSPDAT, 20 VSS

## PIC16F1507-ISS
designator *  value PIC16F1507-ISS  Reference: U
ki_keywords: FLASH-Based 8-Bit CMOS Microcontroller Low Power; ki_description: PIC16F1507, 2048W FLASH, 128B SRAM, SSOP-20; ki_fp_filters: DIP* PDIP* SO* SSOP*; Datasheet: http://ww1.microchip.com/downloads/en/DeviceDoc/41586A.pdf
pins: 1 VDD, 2 RA5/NCO1CLK/T1CKI/CLKIN, 3 RA4/AN3/~{{T1G}/CLKOUT}, 4 RA3/CLC1IN0/~{{MCLR}/Vpp}, 5 PWM1/CLC1/CWG1A/RC5, 6 CLC2IN1/CWG1B/RC4, 7 PWM2/CLC2IN0/AN7/RC3, 8 NCO1/AN8/RC6, 9 CLCIN1/AN9/RC7, 10 RB7, 11 RB6, 12 RB5/AN11, 13 RB4/AN10, 14 AN6/RC2, 15 PWM4/NCO1/AN5/RC1, 16 CLC2/AN4/RC0, 17 RA2/AN2/~{{CWG1FLT}/CLC1/T0CKI/PWM3}, 18 RA1/AN1/Vref+/ICSPCLK, 19 RA0/AN0/ICSPDAT, 20 VSS

## PIC16F1508-IML
designator *  value PIC16F1508-IML  Reference: U
ki_keywords: FLASH-Based 8-Bit CMOS Microcontroller XLP; ki_description: PIC16F1508, 4096W FLASH, 256B SRAM, QFN-20; ki_fp_filters: MLF*; Datasheet: http://ww1.microchip.com/downloads/en/DeviceDoc/41609A.pdf
pins: 1 RA3/T1G/~{{SS}/CLC1IN0/}{MCLR}/Vpp, 2 PWM1/CLC1/CWG1A/RC5, 3 CLC4/CLC2IN1/CWG1B/C2OUT/RC4, 4 PWM2/CLC2IN0/C1IN3-/AN7/RC3, 5 CLC3IN1/NCO1/~{{SS}/AN8/RC6}, 6 CLC1IN1/SDO/AN9/RC7, 7 RB7/TX/CK/CLC3, 8 RB6/SCL/SCK, 9 RB5/AN11/RX/DT/CLC4IN0, 10 RB4/AN10/SDA/SDI/CLC3IN0, 11 C1IN2-/C2IN2-/AN6/RC2, 12 PWM4/NCO1/C1IN1-/C2IN1-/AN5/RC1, 13 CLC2/C2IN+/AN4/RC0, 14 RA2/AN2/DACOUT2/C1OUT/T0CLKI/~{{CWG1FLT}/CLC1/PWM3}, 15 RA1/AN1/Vref+/C1IN0-/C2IN0-/CLC4IN1/ICSPCLK/ICDCLK, 16 RA0/AN0/DACOUT1/C1IN+/ICSPDAT/ICDDAT, 17 VSS, 18 VDD, 19 RA5/SOSCI/T1CKI/NCO1CLK/CLKIN/OSC1, 20 RA4/AN3/SOSCO/T1G/CLKOUT/OSC2

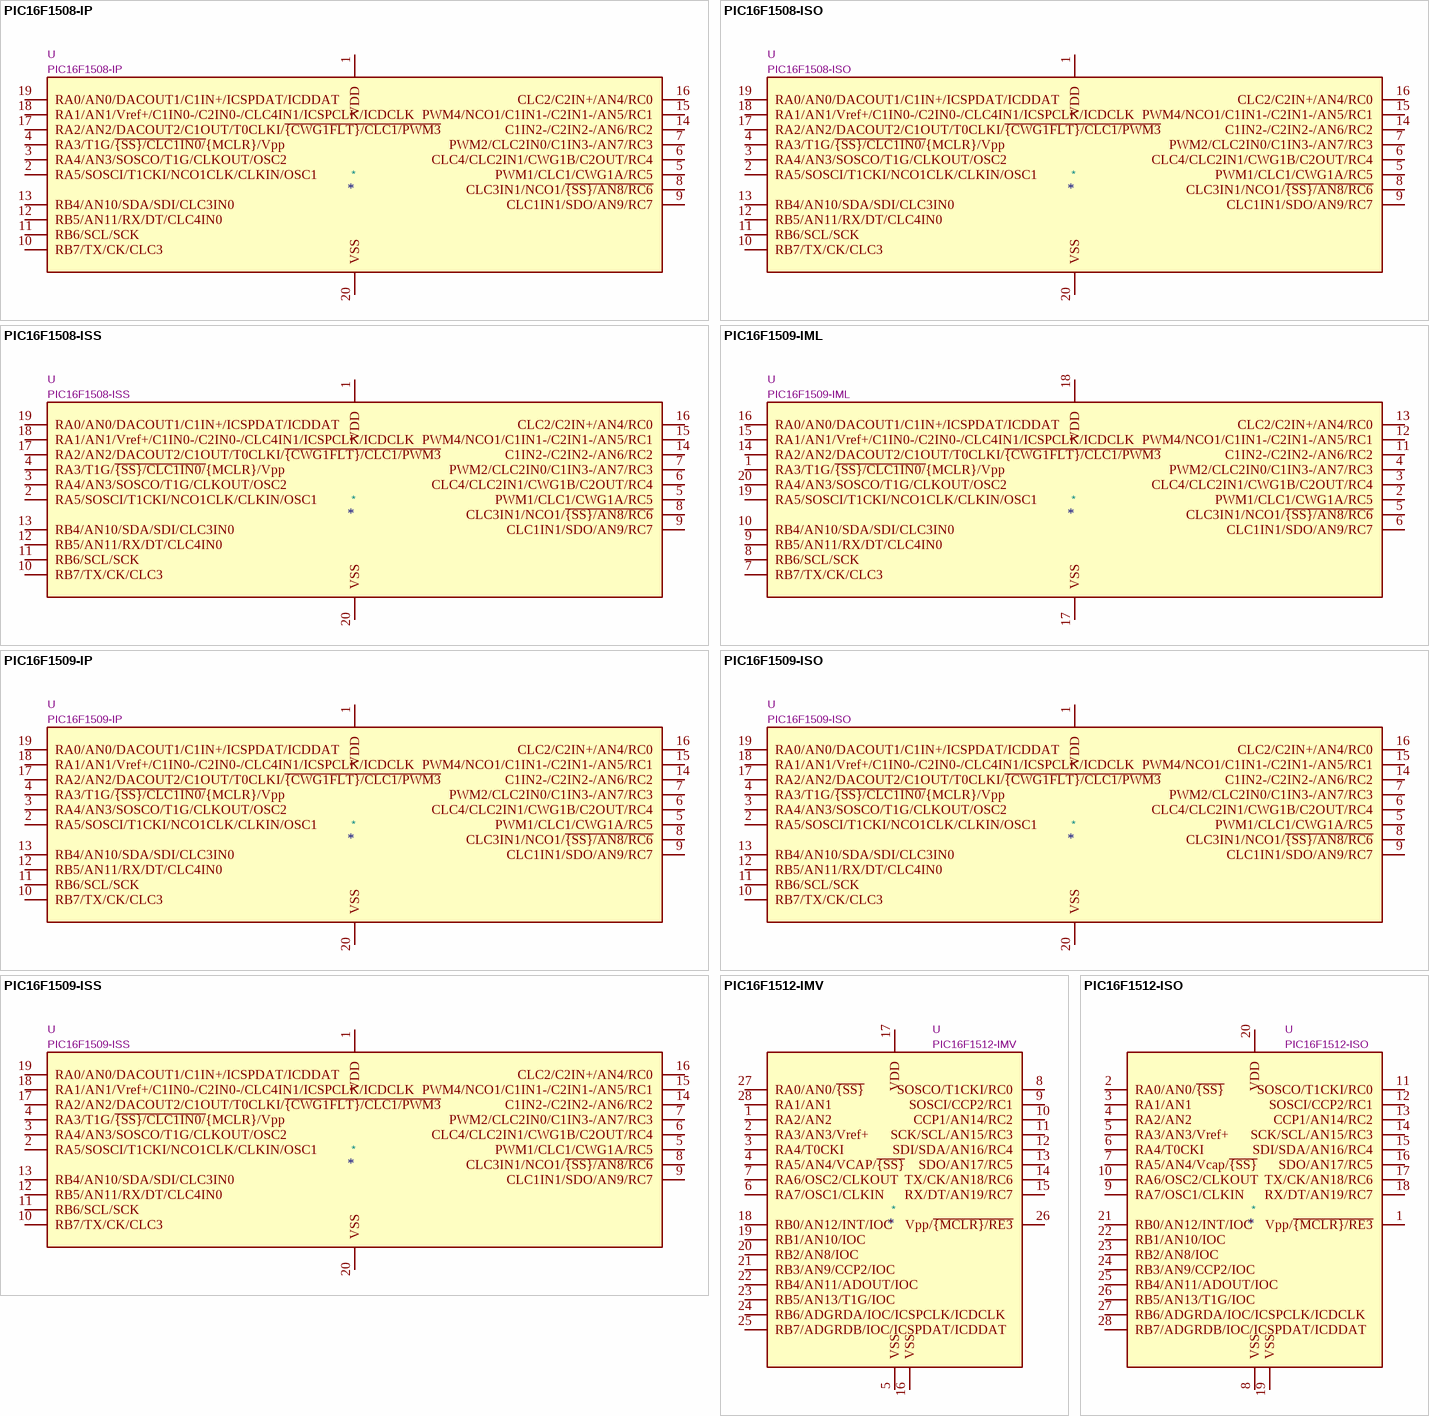
[diagram p9: symbols PIC16F1508-IP to PIC16F1512-ISO]

## PIC16F1508-IP
designator *  value PIC16F1508-IP  Reference: U
ki_keywords: FLASH-Based 8-Bit CMOS Microcontroller XLP; ki_description: 4096W FLASH, 256B SRAM, PDIP-20; ki_fp_filters: DIP* PDIP* SO* SSOP*; Datasheet: http://ww1.microchip.com/downloads/en/DeviceDoc/41609A.pdf
pins: 1 VDD, 2 RA5/SOSCI/T1CKI/NCO1CLK/CLKIN/OSC1, 3 RA4/AN3/SOSCO/T1G/CLKOUT/OSC2, 4 RA3/T1G/~{{SS}/CLC1IN0/}{MCLR}/Vpp, 5 PWM1/CLC1/CWG1A/RC5, 6 CLC4/CLC2IN1/CWG1B/C2OUT/RC4, 7 PWM2/CLC2IN0/C1IN3-/AN7/RC3, 8 CLC3IN1/NCO1/~{{SS}/AN8/RC6}, 9 CLC1IN1/SDO/AN9/RC7, 10 RB7/TX/CK/CLC3, 11 RB6/SCL/SCK, 12 RB5/AN11/RX/DT/CLC4IN0, 13 RB4/AN10/SDA/SDI/CLC3IN0, 14 C1IN2-/C2IN2-/AN6/RC2, 15 PWM4/NCO1/C1IN1-/C2IN1-/AN5/RC1, 16 CLC2/C2IN+/AN4/RC0, 17 RA2/AN2/DACOUT2/C1OUT/T0CLKI/~{{CWG1FLT}/CLC1/PWM3}, 18 RA1/AN1/Vref+/C1IN0-/C2IN0-/CLC4IN1/ICSPCLK/ICDCLK, 19 RA0/AN0/DACOUT1/C1IN+/ICSPDAT/ICDDAT, 20 VSS

## PIC16F1508-ISO
designator *  value PIC16F1508-ISO  Reference: U
ki_keywords: FLASH-Based 8-Bit CMOS Microcontroller XLP; ki_description: PIC16F1508, 4096W FLASH, 256B SRAM, SO-20; ki_fp_filters: DIP* PDIP* SO* SSOP*; Datasheet: http://ww1.microchip.com/downloads/en/DeviceDoc/41609A.pdf
pins: 1 VDD, 2 RA5/SOSCI/T1CKI/NCO1CLK/CLKIN/OSC1, 3 RA4/AN3/SOSCO/T1G/CLKOUT/OSC2, 4 RA3/T1G/~{{SS}/CLC1IN0/}{MCLR}/Vpp, 5 PWM1/CLC1/CWG1A/RC5, 6 CLC4/CLC2IN1/CWG1B/C2OUT/RC4, 7 PWM2/CLC2IN0/C1IN3-/AN7/RC3, 8 CLC3IN1/NCO1/~{{SS}/AN8/RC6}, 9 CLC1IN1/SDO/AN9/RC7, 10 RB7/TX/CK/CLC3, 11 RB6/SCL/SCK, 12 RB5/AN11/RX/DT/CLC4IN0, 13 RB4/AN10/SDA/SDI/CLC3IN0, 14 C1IN2-/C2IN2-/AN6/RC2, 15 PWM4/NCO1/C1IN1-/C2IN1-/AN5/RC1, 16 CLC2/C2IN+/AN4/RC0, 17 RA2/AN2/DACOUT2/C1OUT/T0CLKI/~{{CWG1FLT}/CLC1/PWM3}, 18 RA1/AN1/Vref+/C1IN0-/C2IN0-/CLC4IN1/ICSPCLK/ICDCLK, 19 RA0/AN0/DACOUT1/C1IN+/ICSPDAT/ICDDAT, 20 VSS

## PIC16F1508-ISS
designator *  value PIC16F1508-ISS  Reference: U
ki_keywords: FLASH-Based 8-Bit CMOS Microcontroller XLP; ki_description: PIC16F1508, 4096W FLASH, 256B SRAM, SSOP-20; ki_fp_filters: DIP* PDIP* SO* SSOP*; Datasheet: http://ww1.microchip.com/downloads/en/DeviceDoc/41609A.pdf
pins: 1 VDD, 2 RA5/SOSCI/T1CKI/NCO1CLK/CLKIN/OSC1, 3 RA4/AN3/SOSCO/T1G/CLKOUT/OSC2, 4 RA3/T1G/~{{SS}/CLC1IN0/}{MCLR}/Vpp, 5 PWM1/CLC1/CWG1A/RC5, 6 CLC4/CLC2IN1/CWG1B/C2OUT/RC4, 7 PWM2/CLC2IN0/C1IN3-/AN7/RC3, 8 CLC3IN1/NCO1/~{{SS}/AN8/RC6}, 9 CLC1IN1/SDO/AN9/RC7, 10 RB7/TX/CK/CLC3, 11 RB6/SCL/SCK, 12 RB5/AN11/RX/DT/CLC4IN0, 13 RB4/AN10/SDA/SDI/CLC3IN0, 14 C1IN2-/C2IN2-/AN6/RC2, 15 PWM4/NCO1/C1IN1-/C2IN1-/AN5/RC1, 16 CLC2/C2IN+/AN4/RC0, 17 RA2/AN2/DACOUT2/C1OUT/T0CLKI/~{{CWG1FLT}/CLC1/PWM3}, 18 RA1/AN1/Vref+/C1IN0-/C2IN0-/CLC4IN1/ICSPCLK/ICDCLK, 19 RA0/AN0/DACOUT1/C1IN+/ICSPDAT/ICDDAT, 20 VSS

## PIC16F1509-IML
designator *  value PIC16F1509-IML  Reference: U
ki_keywords: FLASH-Based 8-Bit CMOS Microcontroller XLP; ki_description: PIC16F1509, 9192W FLASH, 512B SRAM, QFN-20; ki_fp_filters: MLF*; Datasheet: http://ww1.microchip.com/downloads/en/DeviceDoc/41609A.pdf
pins: 1 RA3/T1G/~{{SS}/CLC1IN0/}{MCLR}/Vpp, 2 PWM1/CLC1/CWG1A/RC5, 3 CLC4/CLC2IN1/CWG1B/C2OUT/RC4, 4 PWM2/CLC2IN0/C1IN3-/AN7/RC3, 5 CLC3IN1/NCO1/~{{SS}/AN8/RC6}, 6 CLC1IN1/SDO/AN9/RC7, 7 RB7/TX/CK/CLC3, 8 RB6/SCL/SCK, 9 RB5/AN11/RX/DT/CLC4IN0, 10 RB4/AN10/SDA/SDI/CLC3IN0, 11 C1IN2-/C2IN2-/AN6/RC2, 12 PWM4/NCO1/C1IN1-/C2IN1-/AN5/RC1, 13 CLC2/C2IN+/AN4/RC0, 14 RA2/AN2/DACOUT2/C1OUT/T0CLKI/~{{CWG1FLT}/CLC1/PWM3}, 15 RA1/AN1/Vref+/C1IN0-/C2IN0-/CLC4IN1/ICSPCLK/ICDCLK, 16 RA0/AN0/DACOUT1/C1IN+/ICSPDAT/ICDDAT, 17 VSS, 18 VDD, 19 RA5/SOSCI/T1CKI/NCO1CLK/CLKIN/OSC1, 20 RA4/AN3/SOSCO/T1G/CLKOUT/OSC2

## PIC16F1509-IP
designator *  value PIC16F1509-IP  Reference: U
ki_keywords: FLASH-Based 8-Bit CMOS Microcontroller XLP; ki_description: 8192W FLASH, 512B SRAM, PDIP-20; ki_fp_filters: DIP* PDIP* SO* SSOP*; Datasheet: http://ww1.microchip.com/downloads/en/DeviceDoc/41609A.pdf
pins: 1 VDD, 2 RA5/SOSCI/T1CKI/NCO1CLK/CLKIN/OSC1, 3 RA4/AN3/SOSCO/T1G/CLKOUT/OSC2, 4 RA3/T1G/~{{SS}/CLC1IN0/}{MCLR}/Vpp, 5 PWM1/CLC1/CWG1A/RC5, 6 CLC4/CLC2IN1/CWG1B/C2OUT/RC4, 7 PWM2/CLC2IN0/C1IN3-/AN7/RC3, 8 CLC3IN1/NCO1/~{{SS}/AN8/RC6}, 9 CLC1IN1/SDO/AN9/RC7, 10 RB7/TX/CK/CLC3, 11 RB6/SCL/SCK, 12 RB5/AN11/RX/DT/CLC4IN0, 13 RB4/AN10/SDA/SDI/CLC3IN0, 14 C1IN2-/C2IN2-/AN6/RC2, 15 PWM4/NCO1/C1IN1-/C2IN1-/AN5/RC1, 16 CLC2/C2IN+/AN4/RC0, 17 RA2/AN2/DACOUT2/C1OUT/T0CLKI/~{{CWG1FLT}/CLC1/PWM3}, 18 RA1/AN1/Vref+/C1IN0-/C2IN0-/CLC4IN1/ICSPCLK/ICDCLK, 19 RA0/AN0/DACOUT1/C1IN+/ICSPDAT/ICDDAT, 20 VSS

## PIC16F1509-ISO
designator *  value PIC16F1509-ISO  Reference: U
ki_keywords: FLASH-Based 8-Bit CMOS Microcontroller XLP; ki_description: PIC16F1509, 8192W FLASH, 512B SRAM, SO-20; ki_fp_filters: DIP* PDIP* SO* SSOP*; Datasheet: http://ww1.microchip.com/downloads/en/DeviceDoc/41609A.pdf
pins: 1 VDD, 2 RA5/SOSCI/T1CKI/NCO1CLK/CLKIN/OSC1, 3 RA4/AN3/SOSCO/T1G/CLKOUT/OSC2, 4 RA3/T1G/~{{SS}/CLC1IN0/}{MCLR}/Vpp, 5 PWM1/CLC1/CWG1A/RC5, 6 CLC4/CLC2IN1/CWG1B/C2OUT/RC4, 7 PWM2/CLC2IN0/C1IN3-/AN7/RC3, 8 CLC3IN1/NCO1/~{{SS}/AN8/RC6}, 9 CLC1IN1/SDO/AN9/RC7, 10 RB7/TX/CK/CLC3, 11 RB6/SCL/SCK, 12 RB5/AN11/RX/DT/CLC4IN0, 13 RB4/AN10/SDA/SDI/CLC3IN0, 14 C1IN2-/C2IN2-/AN6/RC2, 15 PWM4/NCO1/C1IN1-/C2IN1-/AN5/RC1, 16 CLC2/C2IN+/AN4/RC0, 17 RA2/AN2/DACOUT2/C1OUT/T0CLKI/~{{CWG1FLT}/CLC1/PWM3}, 18 RA1/AN1/Vref+/C1IN0-/C2IN0-/CLC4IN1/ICSPCLK/ICDCLK, 19 RA0/AN0/DACOUT1/C1IN+/ICSPDAT/ICDDAT, 20 VSS

## PIC16F1509-ISS
designator *  value PIC16F1509-ISS  Reference: U
ki_keywords: FLASH-Based 8-Bit CMOS Microcontroller XLP; ki_description: PIC16F1509, 8192W FLASH, 512B SRAM, SSOP-20; ki_fp_filters: DIP* PDIP* SO* SSOP*; Datasheet: http://ww1.microchip.com/downloads/en/DeviceDoc/41609A.pdf
pins: 1 VDD, 2 RA5/SOSCI/T1CKI/NCO1CLK/CLKIN/OSC1, 3 RA4/AN3/SOSCO/T1G/CLKOUT/OSC2, 4 RA3/T1G/~{{SS}/CLC1IN0/}{MCLR}/Vpp, 5 PWM1/CLC1/CWG1A/RC5, 6 CLC4/CLC2IN1/CWG1B/C2OUT/RC4, 7 PWM2/CLC2IN0/C1IN3-/AN7/RC3, 8 CLC3IN1/NCO1/~{{SS}/AN8/RC6}, 9 CLC1IN1/SDO/AN9/RC7, 10 RB7/TX/CK/CLC3, 11 RB6/SCL/SCK, 12 RB5/AN11/RX/DT/CLC4IN0, 13 RB4/AN10/SDA/SDI/CLC3IN0, 14 C1IN2-/C2IN2-/AN6/RC2, 15 PWM4/NCO1/C1IN1-/C2IN1-/AN5/RC1, 16 CLC2/C2IN+/AN4/RC0, 17 RA2/AN2/DACOUT2/C1OUT/T0CLKI/~{{CWG1FLT}/CLC1/PWM3}, 18 RA1/AN1/Vref+/C1IN0-/C2IN0-/CLC4IN1/ICSPCLK/ICDCLK, 19 RA0/AN0/DACOUT1/C1IN+/ICSPDAT/ICDDAT, 20 VSS

## PIC16F1512-IMV
designator *  value PIC16F1512-IMV  Reference: U
ki_keywords: FLASH-Based 8-Bit CMOS Microcontroller XLP; ki_description: PIC16F1512, 2048W FLASH, 128B SRAM, UQFN-28; ki_fp_filters: UQFN*; Datasheet: http://ww1.microchip.com/downloads/en/DeviceDoc/41624A.pdf
pins: 1 RA2/AN2, 2 RA3/AN3/Vref+, 3 RA4/T0CKI, 4 RA5/AN4/VCAP/~{{SS}}, 5 VSS, 6 RA7/OSC1/CLKIN, 7 RA6/OSC2/CLKOUT, 8 SOSCO/T1CKI/RC0, 9 SOSCI/CCP2/RC1, 10 CCP1/AN14/RC2, 11 SCK/SCL/AN15/RC3, 12 SDI/SDA/AN16/RC4, 13 SDO/AN17/RC5, 14 TX/CK/AN18/RC6, 15 RX/DT/AN19/RC7, 16 VSS, 17 VDD, 18 RB0/AN12/INT/IOC, 19 RB1/AN10/IOC, 20 RB2/AN8/IOC, 21 RB3/AN9/CCP2/IOC, 22 RB4/AN11/ADOUT/IOC, 23 RB5/AN13/T1G/IOC, 24 RB6/ADGRDA/IOC/ICSPCLK/ICDCLK, 25 RB7/ADGRDB/IOC/ICSPDAT/ICDDAT, 26 Vpp/~{{MCLR}/RE3}, 27 RA0/AN0/~{{SS}}, 28 RA1/AN1

## PIC16F1512-ISO
designator *  value PIC16F1512-ISO  Reference: U
ki_keywords: FLASH-Based 8-Bit CMOS Microcontroller XLP; ki_description: PIC16F1512, 2048W FLASH, 128B SRAM, SO-28; ki_fp_filters: DIP* PDIP* SO* SSOP*; Datasheet: http://ww1.microchip.com/downloads/en/DeviceDoc/41624A.pdf
pins: 1 Vpp/~{{MCLR}/RE3}, 2 RA0/AN0/~{{SS}}, 3 RA1/AN1, 4 RA2/AN2, 5 RA3/AN3/Vref+, 6 RA4/T0CKI, 7 RA5/AN4/Vcap/~{{SS}}, 8 VSS, 9 RA7/OSC1/CLKIN, 10 RA6/OSC2/CLKOUT, 11 SOSCO/T1CKI/RC0, 12 SOSCI/CCP2/RC1, 13 CCP1/AN14/RC2, 14 SCK/SCL/AN15/RC3, 15 SDI/SDA/AN16/RC4, 16 SDO/AN17/RC5, 17 TX/CK/AN18/RC6, 18 RX/DT/AN19/RC7, 19 VSS, 20 VDD, 21 RB0/AN12/INT/IOC, 22 RB1/AN10/IOC, 23 RB2/AN8/IOC, 24 RB3/AN9/CCP2/IOC, 25 RB4/AN11/ADOUT/IOC, 26 RB5/AN13/T1G/IOC, 27 RB6/ADGRDA/IOC/ICSPCLK/ICDCLK, 28 RB7/ADGRDB/IOC/ICSPDAT/ICDDAT

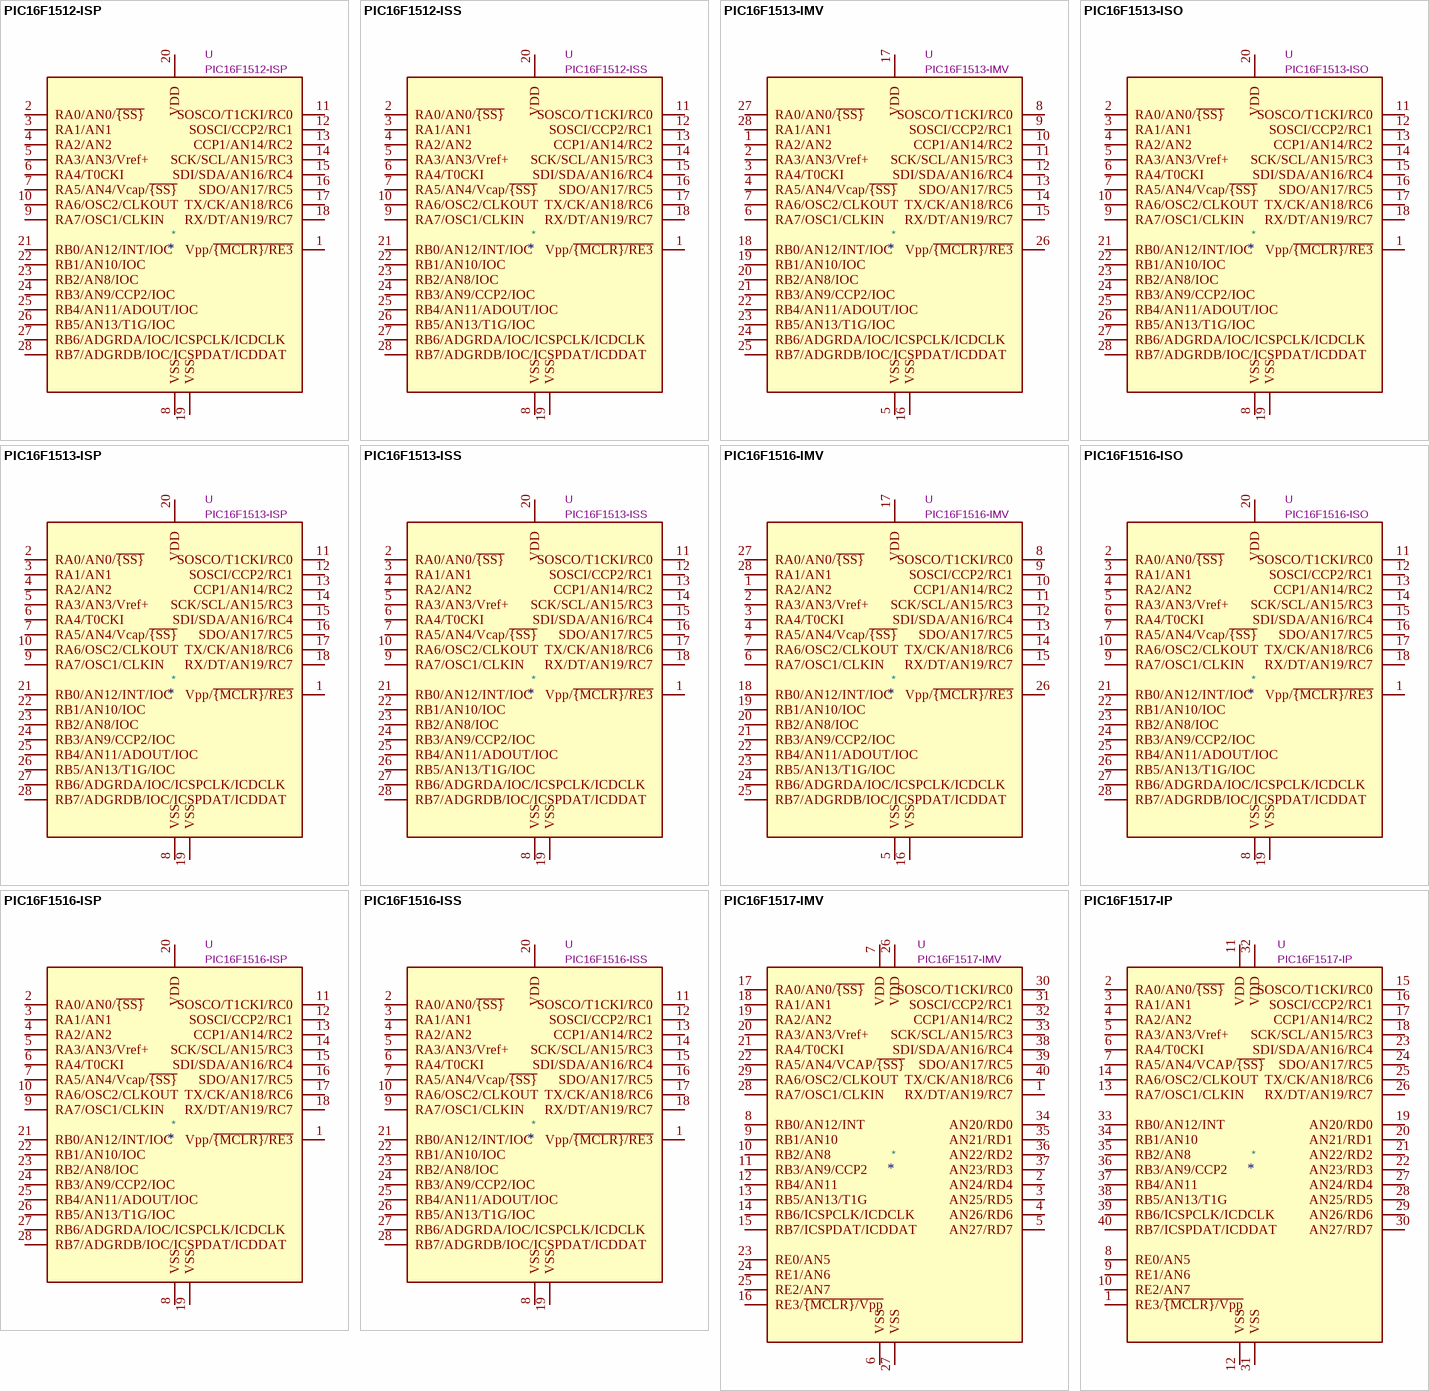
[diagram p10: symbols PIC16F1512-ISP to PIC16F1517-IP]

## PIC16F1512-ISP
designator *  value PIC16F1512-ISP  Reference: U
ki_keywords: FLASH-Based 8-Bit CMOS Microcontroller XLP; ki_description: PIC16F1512, 2048W FLASH, 128B SRAM, SPDIP-28; ki_fp_filters: DIP* PDIP* SO* SSOP*; Datasheet: http://ww1.microchip.com/downloads/en/DeviceDoc/41624A.pdf
pins: 1 Vpp/~{{MCLR}/RE3}, 2 RA0/AN0/~{{SS}}, 3 RA1/AN1, 4 RA2/AN2, 5 RA3/AN3/Vref+, 6 RA4/T0CKI, 7 RA5/AN4/Vcap/~{{SS}}, 8 VSS, 9 RA7/OSC1/CLKIN, 10 RA6/OSC2/CLKOUT, 11 SOSCO/T1CKI/RC0, 12 SOSCI/CCP2/RC1, 13 CCP1/AN14/RC2, 14 SCK/SCL/AN15/RC3, 15 SDI/SDA/AN16/RC4, 16 SDO/AN17/RC5, 17 TX/CK/AN18/RC6, 18 RX/DT/AN19/RC7, 19 VSS, 20 VDD, 21 RB0/AN12/INT/IOC, 22 RB1/AN10/IOC, 23 RB2/AN8/IOC, 24 RB3/AN9/CCP2/IOC, 25 RB4/AN11/ADOUT/IOC, 26 RB5/AN13/T1G/IOC, 27 RB6/ADGRDA/IOC/ICSPCLK/ICDCLK, 28 RB7/ADGRDB/IOC/ICSPDAT/ICDDAT

## PIC16F1512-ISS
designator *  value PIC16F1512-ISS  Reference: U
ki_keywords: FLASH-Based 8-Bit CMOS Microcontroller XLP; ki_description: PIC16F1512, 2048W FLASH, 128B SRAM, SSOP-28; ki_fp_filters: DIP* PDIP* SO* SSOP*; Datasheet: http://ww1.microchip.com/downloads/en/DeviceDoc/41624A.pdf
pins: 1 Vpp/~{{MCLR}/RE3}, 2 RA0/AN0/~{{SS}}, 3 RA1/AN1, 4 RA2/AN2, 5 RA3/AN3/Vref+, 6 RA4/T0CKI, 7 RA5/AN4/Vcap/~{{SS}}, 8 VSS, 9 RA7/OSC1/CLKIN, 10 RA6/OSC2/CLKOUT, 11 SOSCO/T1CKI/RC0, 12 SOSCI/CCP2/RC1, 13 CCP1/AN14/RC2, 14 SCK/SCL/AN15/RC3, 15 SDI/SDA/AN16/RC4, 16 SDO/AN17/RC5, 17 TX/CK/AN18/RC6, 18 RX/DT/AN19/RC7, 19 VSS, 20 VDD, 21 RB0/AN12/INT/IOC, 22 RB1/AN10/IOC, 23 RB2/AN8/IOC, 24 RB3/AN9/CCP2/IOC, 25 RB4/AN11/ADOUT/IOC, 26 RB5/AN13/T1G/IOC, 27 RB6/ADGRDA/IOC/ICSPCLK/ICDCLK, 28 RB7/ADGRDB/IOC/ICSPDAT/ICDDAT

## PIC16F1513-IMV
designator *  value PIC16F1513-IMV  Reference: U
ki_keywords: FLASH-Based 8-Bit CMOS Microcontroller XLP; ki_description: PIC16F1513, 4096W FLASH, 256B SRAM, UQFN-28; ki_fp_filters: UQFN*; Datasheet: http://ww1.microchip.com/downloads/en/DeviceDoc/41624A.pdf
pins: 1 RA2/AN2, 2 RA3/AN3/Vref+, 3 RA4/T0CKI, 4 RA5/AN4/Vcap/~{{SS}}, 5 VSS, 6 RA7/OSC1/CLKIN, 7 RA6/OSC2/CLKOUT, 8 SOSCO/T1CKI/RC0, 9 SOSCI/CCP2/RC1, 10 CCP1/AN14/RC2, 11 SCK/SCL/AN15/RC3, 12 SDI/SDA/AN16/RC4, 13 SDO/AN17/RC5, 14 TX/CK/AN18/RC6, 15 RX/DT/AN19/RC7, 16 VSS, 17 VDD, 18 RB0/AN12/INT/IOC, 19 RB1/AN10/IOC, 20 RB2/AN8/IOC, 21 RB3/AN9/CCP2/IOC, 22 RB4/AN11/ADOUT/IOC, 23 RB5/AN13/T1G/IOC, 24 RB6/ADGRDA/IOC/ICSPCLK/ICDCLK, 25 RB7/ADGRDB/IOC/ICSPDAT/ICDDAT, 26 Vpp/~{{MCLR}/RE3}, 27 RA0/AN0/~{{SS}}, 28 RA1/AN1

## PIC16F1513-ISO
designator *  value PIC16F1513-ISO  Reference: U
ki_keywords: FLASH-Based 8-Bit CMOS Microcontroller XLP; ki_description: PIC16F1513, 4096W FLASH, 2568B SRAM, SO-28; ki_fp_filters: DIP* PDIP* SO* SSOP*; Datasheet: http://ww1.microchip.com/downloads/en/DeviceDoc/41624A.pdf
pins: 1 Vpp/~{{MCLR}/RE3}, 2 RA0/AN0/~{{SS}}, 3 RA1/AN1, 4 RA2/AN2, 5 RA3/AN3/Vref+, 6 RA4/T0CKI, 7 RA5/AN4/Vcap/~{{SS}}, 8 VSS, 9 RA7/OSC1/CLKIN, 10 RA6/OSC2/CLKOUT, 11 SOSCO/T1CKI/RC0, 12 SOSCI/CCP2/RC1, 13 CCP1/AN14/RC2, 14 SCK/SCL/AN15/RC3, 15 SDI/SDA/AN16/RC4, 16 SDO/AN17/RC5, 17 TX/CK/AN18/RC6, 18 RX/DT/AN19/RC7, 19 VSS, 20 VDD, 21 RB0/AN12/INT/IOC, 22 RB1/AN10/IOC, 23 RB2/AN8/IOC, 24 RB3/AN9/CCP2/IOC, 25 RB4/AN11/ADOUT/IOC, 26 RB5/AN13/T1G/IOC, 27 RB6/ADGRDA/IOC/ICSPCLK/ICDCLK, 28 RB7/ADGRDB/IOC/ICSPDAT/ICDDAT

## PIC16F1513-ISP
designator *  value PIC16F1513-ISP  Reference: U
ki_keywords: FLASH-Based 8-Bit CMOS Microcontroller XLP; ki_description: PIC16F1513, 4096W FLASH, 2568B SRAM, SPDIP-28; ki_fp_filters: DIP* PDIP* SO* SSOP*; Datasheet: http://ww1.microchip.com/downloads/en/DeviceDoc/41624A.pdf
pins: 1 Vpp/~{{MCLR}/RE3}, 2 RA0/AN0/~{{SS}}, 3 RA1/AN1, 4 RA2/AN2, 5 RA3/AN3/Vref+, 6 RA4/T0CKI, 7 RA5/AN4/Vcap/~{{SS}}, 8 VSS, 9 RA7/OSC1/CLKIN, 10 RA6/OSC2/CLKOUT, 11 SOSCO/T1CKI/RC0, 12 SOSCI/CCP2/RC1, 13 CCP1/AN14/RC2, 14 SCK/SCL/AN15/RC3, 15 SDI/SDA/AN16/RC4, 16 SDO/AN17/RC5, 17 TX/CK/AN18/RC6, 18 RX/DT/AN19/RC7, 19 VSS, 20 VDD, 21 RB0/AN12/INT/IOC, 22 RB1/AN10/IOC, 23 RB2/AN8/IOC, 24 RB3/AN9/CCP2/IOC, 25 RB4/AN11/ADOUT/IOC, 26 RB5/AN13/T1G/IOC, 27 RB6/ADGRDA/IOC/ICSPCLK/ICDCLK, 28 RB7/ADGRDB/IOC/ICSPDAT/ICDDAT

## PIC16F1513-ISS
designator *  value PIC16F1513-ISS  Reference: U
ki_keywords: FLASH-Based 8-Bit CMOS Microcontroller XLP; ki_description: PIC16F1513, 4096W FLASH, 2568B SRAM, SSOP-28; ki_fp_filters: DIP* PDIP* SO* SSOP*; Datasheet: http://ww1.microchip.com/downloads/en/DeviceDoc/41624A.pdf
pins: 1 Vpp/~{{MCLR}/RE3}, 2 RA0/AN0/~{{SS}}, 3 RA1/AN1, 4 RA2/AN2, 5 RA3/AN3/Vref+, 6 RA4/T0CKI, 7 RA5/AN4/Vcap/~{{SS}}, 8 VSS, 9 RA7/OSC1/CLKIN, 10 RA6/OSC2/CLKOUT, 11 SOSCO/T1CKI/RC0, 12 SOSCI/CCP2/RC1, 13 CCP1/AN14/RC2, 14 SCK/SCL/AN15/RC3, 15 SDI/SDA/AN16/RC4, 16 SDO/AN17/RC5, 17 TX/CK/AN18/RC6, 18 RX/DT/AN19/RC7, 19 VSS, 20 VDD, 21 RB0/AN12/INT/IOC, 22 RB1/AN10/IOC, 23 RB2/AN8/IOC, 24 RB3/AN9/CCP2/IOC, 25 RB4/AN11/ADOUT/IOC, 26 RB5/AN13/T1G/IOC, 27 RB6/ADGRDA/IOC/ICSPCLK/ICDCLK, 28 RB7/ADGRDB/IOC/ICSPDAT/ICDDAT

## PIC16F1516-IMV
designator *  value PIC16F1516-IMV  Reference: U
ki_keywords: FLASH-Based 8-Bit CMOS Microcontroller XLP; ki_description: PIC16F1516, 8192W FLASH, 512B SRAM, UQFN-28; ki_fp_filters: UQFN*; Datasheet: http://ww1.microchip.com/downloads/en/DeviceDoc/41452B.pdf
pins: 1 RA2/AN2, 2 RA3/AN3/Vref+, 3 RA4/T0CKI, 4 RA5/AN4/Vcap/~{{SS}}, 5 VSS, 6 RA7/OSC1/CLKIN, 7 RA6/OSC2/CLKOUT, 8 SOSCO/T1CKI/RC0, 9 SOSCI/CCP2/RC1, 10 CCP1/AN14/RC2, 11 SCK/SCL/AN15/RC3, 12 SDI/SDA/AN16/RC4, 13 SDO/AN17/RC5, 14 TX/CK/AN18/RC6, 15 RX/DT/AN19/RC7, 16 VSS, 17 VDD, 18 RB0/AN12/INT/IOC, 19 RB1/AN10/IOC, 20 RB2/AN8/IOC, 21 RB3/AN9/CCP2/IOC, 22 RB4/AN11/ADOUT/IOC, 23 RB5/AN13/T1G/IOC, 24 RB6/ADGRDA/IOC/ICSPCLK/ICDCLK, 25 RB7/ADGRDB/IOC/ICSPDAT/ICDDAT, 26 Vpp/~{{MCLR}/RE3}, 27 RA0/AN0/~{{SS}}, 28 RA1/AN1

## PIC16F1516-ISO
designator *  value PIC16F1516-ISO  Reference: U
ki_keywords: FLASH-Based 8-Bit CMOS Microcontroller XLP; ki_description: PIC16F1516, 8192W FLASH, 512B SRAM, SO-28; ki_fp_filters: DIP* PDIP* SO* SSOP*; Datasheet: http://ww1.microchip.com/downloads/en/DeviceDoc/41452B.pdf
pins: 1 Vpp/~{{MCLR}/RE3}, 2 RA0/AN0/~{{SS}}, 3 RA1/AN1, 4 RA2/AN2, 5 RA3/AN3/Vref+, 6 RA4/T0CKI, 7 RA5/AN4/Vcap/~{{SS}}, 8 VSS, 9 RA7/OSC1/CLKIN, 10 RA6/OSC2/CLKOUT, 11 SOSCO/T1CKI/RC0, 12 SOSCI/CCP2/RC1, 13 CCP1/AN14/RC2, 14 SCK/SCL/AN15/RC3, 15 SDI/SDA/AN16/RC4, 16 SDO/AN17/RC5, 17 TX/CK/AN18/RC6, 18 RX/DT/AN19/RC7, 19 VSS, 20 VDD, 21 RB0/AN12/INT/IOC, 22 RB1/AN10/IOC, 23 RB2/AN8/IOC, 24 RB3/AN9/CCP2/IOC, 25 RB4/AN11/ADOUT/IOC, 26 RB5/AN13/T1G/IOC, 27 RB6/ADGRDA/IOC/ICSPCLK/ICDCLK, 28 RB7/ADGRDB/IOC/ICSPDAT/ICDDAT

## PIC16F1516-ISP
designator *  value PIC16F1516-ISP  Reference: U
ki_keywords: FLASH-Based 8-Bit CMOS Microcontroller XLP; ki_description: PIC16F1516, 8192W FLASH, 512B SRAM, SPDIP-28; ki_fp_filters: DIP* PDIP* SO* SSOP*; Datasheet: http://ww1.microchip.com/downloads/en/DeviceDoc/41452B.pdf
pins: 1 Vpp/~{{MCLR}/RE3}, 2 RA0/AN0/~{{SS}}, 3 RA1/AN1, 4 RA2/AN2, 5 RA3/AN3/Vref+, 6 RA4/T0CKI, 7 RA5/AN4/Vcap/~{{SS}}, 8 VSS, 9 RA7/OSC1/CLKIN, 10 RA6/OSC2/CLKOUT, 11 SOSCO/T1CKI/RC0, 12 SOSCI/CCP2/RC1, 13 CCP1/AN14/RC2, 14 SCK/SCL/AN15/RC3, 15 SDI/SDA/AN16/RC4, 16 SDO/AN17/RC5, 17 TX/CK/AN18/RC6, 18 RX/DT/AN19/RC7, 19 VSS, 20 VDD, 21 RB0/AN12/INT/IOC, 22 RB1/AN10/IOC, 23 RB2/AN8/IOC, 24 RB3/AN9/CCP2/IOC, 25 RB4/AN11/ADOUT/IOC, 26 RB5/AN13/T1G/IOC, 27 RB6/ADGRDA/IOC/ICSPCLK/ICDCLK, 28 RB7/ADGRDB/IOC/ICSPDAT/ICDDAT

## PIC16F1516-ISS
designator *  value PIC16F1516-ISS  Reference: U
ki_keywords: FLASH-Based 8-Bit CMOS Microcontroller XLP; ki_description: PIC16F1516, 8192W FLASH, 512B SRAM, SSOP-28; ki_fp_filters: DIP* PDIP* SO* SSOP*; Datasheet: http://ww1.microchip.com/downloads/en/DeviceDoc/41452B.pdf
pins: 1 Vpp/~{{MCLR}/RE3}, 2 RA0/AN0/~{{SS}}, 3 RA1/AN1, 4 RA2/AN2, 5 RA3/AN3/Vref+, 6 RA4/T0CKI, 7 RA5/AN4/Vcap/~{{SS}}, 8 VSS, 9 RA7/OSC1/CLKIN, 10 RA6/OSC2/CLKOUT, 11 SOSCO/T1CKI/RC0, 12 SOSCI/CCP2/RC1, 13 CCP1/AN14/RC2, 14 SCK/SCL/AN15/RC3, 15 SDI/SDA/AN16/RC4, 16 SDO/AN17/RC5, 17 TX/CK/AN18/RC6, 18 RX/DT/AN19/RC7, 19 VSS, 20 VDD, 21 RB0/AN12/INT/IOC, 22 RB1/AN10/IOC, 23 RB2/AN8/IOC, 24 RB3/AN9/CCP2/IOC, 25 RB4/AN11/ADOUT/IOC, 26 RB5/AN13/T1G/IOC, 27 RB6/ADGRDA/IOC/ICSPCLK/ICDCLK, 28 RB7/ADGRDB/IOC/ICSPDAT/ICDDAT

## PIC16F1517-IMV
designator *  value PIC16F1517-IMV  Reference: U
ki_keywords: FLASH-Based 8-Bit CMOS Microcontroller XLP; ki_description: PIC16F1517, 8192W FLASH, 512B SRAM, UQFN-40; ki_fp_filters: UQFN*; Datasheet: http://ww1.microchip.com/downloads/en/DeviceDoc/41452B.pdf
pins: 1 RX/DT/AN19/RC7, 2 AN24/RD4, 3 AN25/RD5, 4 AN26/RD6, 5 AN27/RD7, 6 VSS, 7 VDD, 8 RB0/AN12/INT, 9 RB1/AN10, 10 RB2/AN8, 11 RB3/AN9/CCP2, 12 RB4/AN11, 13 RB5/AN13/T1G, 14 RB6/ICSPCLK/ICDCLK, 15 RB7/ICSPDAT/ICDDAT, 16 RE3/~{{MCLR}/Vpp}, 17 RA0/AN0/~{{SS}}, 18 RA1/AN1, 19 RA2/AN2, 20 RA3/AN3/Vref+, 21 RA4/T0CKI, 22 RA5/AN4/VCAP/~{{SS}}, 23 RE0/AN5, 24 RE1/AN6, 25 RE2/AN7, 26 VDD, 27 VSS, 28 RA7/OSC1/CLKIN, 29 RA6/OSC2/CLKOUT, 30 SOSCO/T1CKI/RC0, 31 SOSCI/CCP2/RC1, 32 CCP1/AN14/RC2, 33 SCK/SCL/AN15/RC3, 34 AN20/RD0, 35 AN21/RD1, 36 AN22/RD2, 37 AN23/RD3, 38 SDI/SDA/AN16/RC4, 39 SDO/AN17/RC5, 40 TX/CK/AN18/RC6

## PIC16F1517-IP
designator *  value PIC16F1517-IP  Reference: U
ki_keywords: FLASH-Based 8-Bit CMOS Microcontroller XLP; ki_description: 8192W FLASH, 512B SRAM, PDIP-40; ki_fp_filters: DIP* PDIP*; Datasheet: http://ww1.microchip.com/downloads/en/DeviceDoc/41452B.pdf
pins: 1 RE3/~{{MCLR}/Vpp}, 2 RA0/AN0/~{{SS}}, 3 RA1/AN1, 4 RA2/AN2, 5 RA3/AN3/Vref+, 6 RA4/T0CKI, 7 RA5/AN4/VCAP/~{{SS}}, 8 RE0/AN5, 9 RE1/AN6, 10 RE2/AN7, 11 VDD, 12 VSS, 13 RA7/OSC1/CLKIN, 14 RA6/OSC2/CLKOUT, 15 SOSCO/T1CKI/RC0, 16 SOSCI/CCP2/RC1, 17 CCP1/AN14/RC2, 18 SCK/SCL/AN15/RC3, 19 AN20/RD0, 20 AN21/RD1, 21 AN22/RD2, 22 AN23/RD3, 23 SDI/SDA/AN16/RC4, 24 SDO/AN17/RC5, 25 TX/CK/AN18/RC6, 26 RX/DT/AN19/RC7, 27 AN24/RD4, 28 AN25/RD5, 29 AN26/RD6, 30 AN27/RD7, 31 VSS, 32 VDD, 33 RB0/AN12/INT, 34 RB1/AN10, 35 RB2/AN8, 36 RB3/AN9/CCP2, 37 RB4/AN11, 38 RB5/AN13/T1G, 39 RB6/ICSPCLK/ICDCLK, 40 RB7/ICSPDAT/ICDDAT

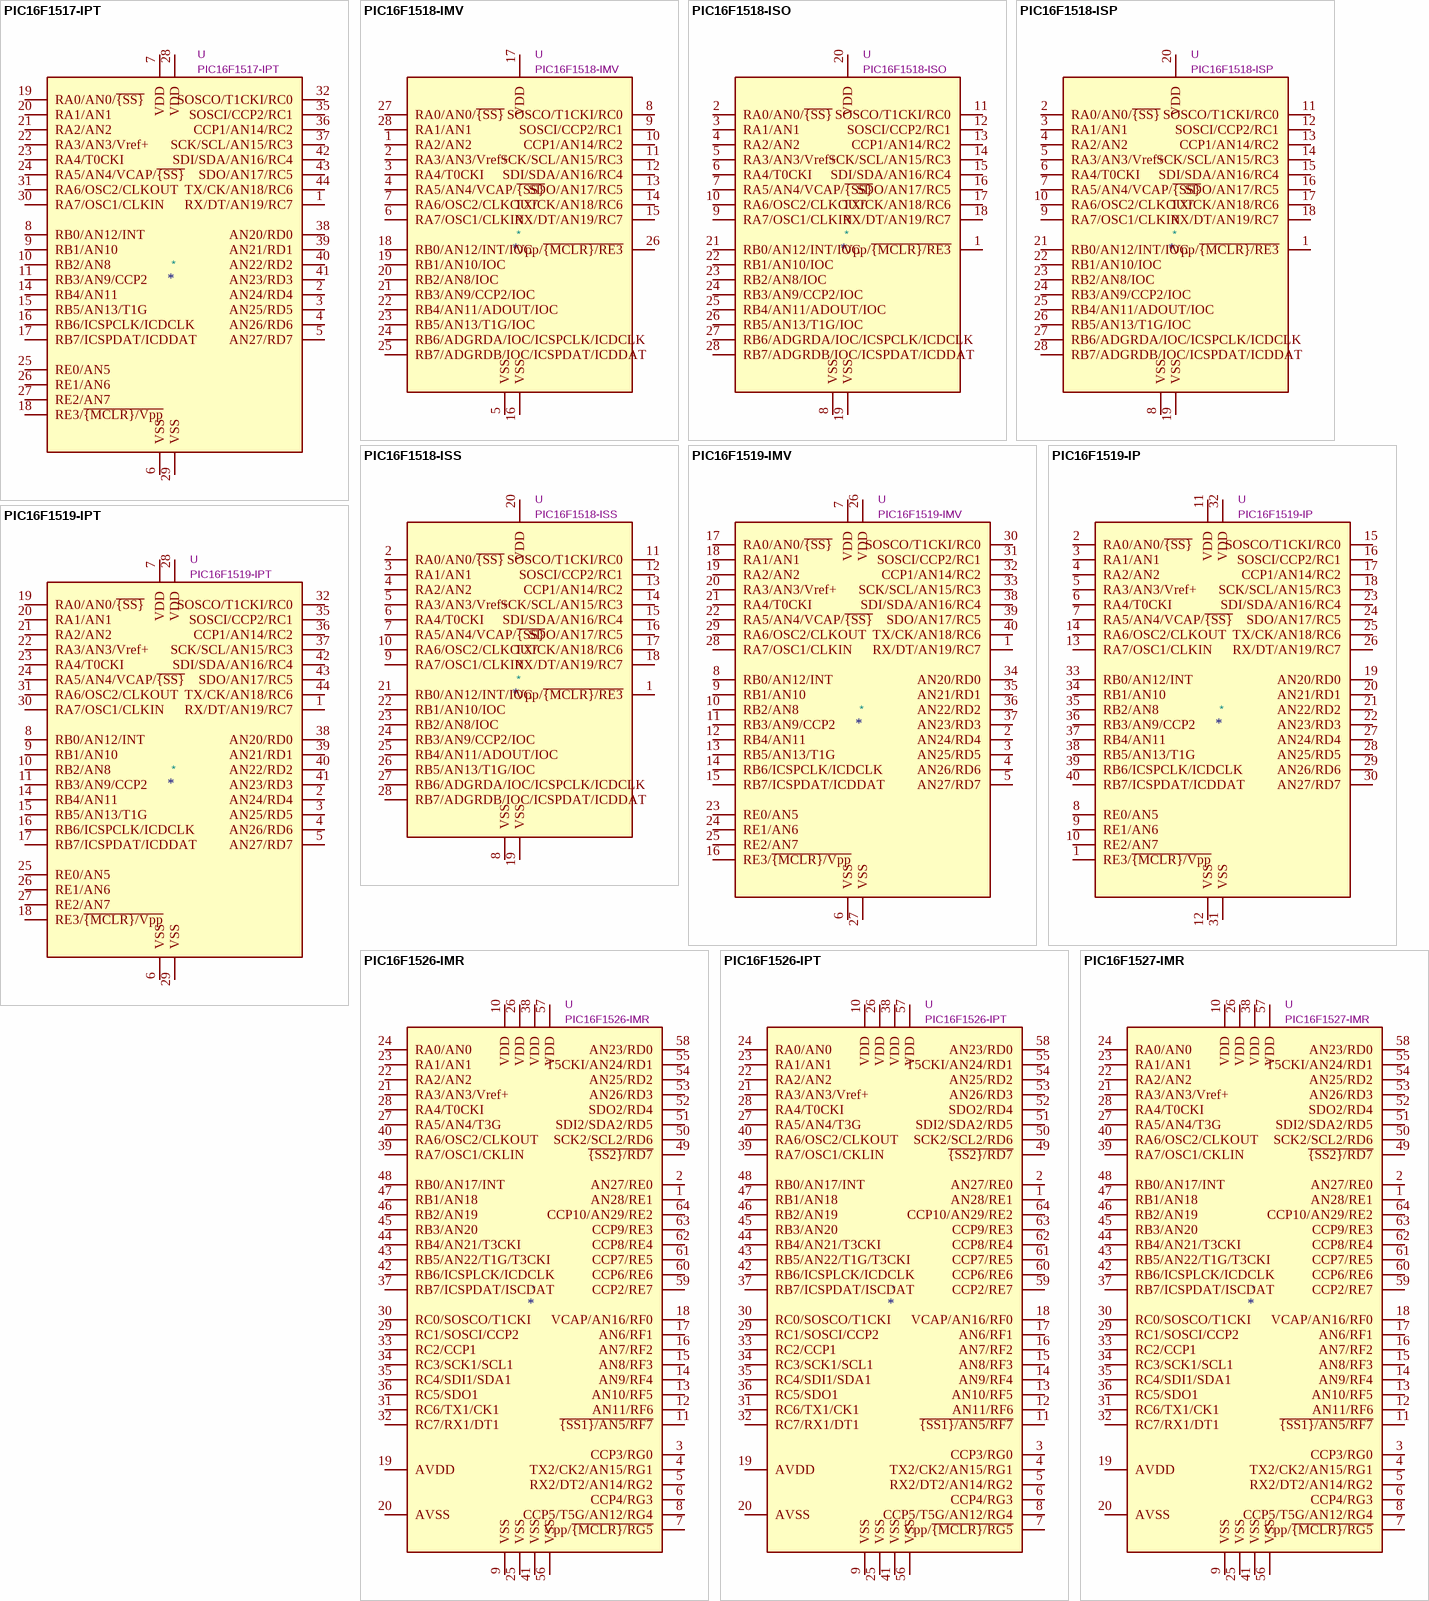
[diagram p11: symbols PIC16F1517-IPT to PIC16F1527-IMR]

## PIC16F1517-IPT
designator *  value PIC16F1517-IPT  Reference: U
ki_keywords: FLASH-Based 8-Bit CMOS Microcontroller XLP; ki_description: PIC16F1517, 8192W FLASH, 512B SRAM, TQFP-40; ki_fp_filters: TQFP*; Datasheet: http://ww1.microchip.com/downloads/en/DeviceDoc/41452B.pdf
pins: 1 RX/DT/AN19/RC7, 2 AN24/RD4, 3 AN25/RD5, 4 AN26/RD6, 5 AN27/RD7, 6 VSS, 7 VDD, 8 RB0/AN12/INT, 9 RB1/AN10, 10 RB2/AN8, 11 RB3/AN9/CCP2, 14 RB4/AN11, 15 RB5/AN13/T1G, 16 RB6/ICSPCLK/ICDCLK, 17 RB7/ICSPDAT/ICDDAT, 18 RE3/~{{MCLR}/Vpp}, 19 RA0/AN0/~{{SS}}, 20 RA1/AN1, 21 RA2/AN2, 22 RA3/AN3/Vref+, 23 RA4/T0CKI, 24 RA5/AN4/VCAP/~{{SS}}, 25 RE0/AN5, 26 RE1/AN6, 27 RE2/AN7, 28 VDD, 29 VSS, 30 RA7/OSC1/CLKIN, 31 RA6/OSC2/CLKOUT, 32 SOSCO/T1CKI/RC0, 35 SOSCI/CCP2/RC1, 36 CCP1/AN14/RC2, 37 SCK/SCL/AN15/RC3, 38 AN20/RD0, 39 AN21/RD1, 40 AN22/RD2, 41 AN23/RD3, 42 SDI/SDA/AN16/RC4, 43 SDO/AN17/RC5, 44 TX/CK/AN18/RC6

## PIC16F1518-IMV
designator *  value PIC16F1518-IMV  Reference: U
ki_keywords: FLASH-Based 8-Bit CMOS Microcontroller XLP; ki_description: PIC16F1518, 16384W FLASH, 1204B SRAM, UQFN-28; ki_fp_filters: UQFN*; Datasheet: http://ww1.microchip.com/downloads/en/DeviceDoc/41452B.pdf
pins: 1 RA2/AN2, 2 RA3/AN3/Vref+, 3 RA4/T0CKI, 4 RA5/AN4/VCAP/~{{SS}}, 5 VSS, 6 RA7/OSC1/CLKIN, 7 RA6/OSC2/CLKOUT, 8 SOSCO/T1CKI/RC0, 9 SOSCI/CCP2/RC1, 10 CCP1/AN14/RC2, 11 SCK/SCL/AN15/RC3, 12 SDI/SDA/AN16/RC4, 13 SDO/AN17/RC5, 14 TX/CK/AN18/RC6, 15 RX/DT/AN19/RC7, 16 VSS, 17 VDD, 18 RB0/AN12/INT/IOC, 19 RB1/AN10/IOC, 20 RB2/AN8/IOC, 21 RB3/AN9/CCP2/IOC, 22 RB4/AN11/ADOUT/IOC, 23 RB5/AN13/T1G/IOC, 24 RB6/ADGRDA/IOC/ICSPCLK/ICDCLK, 25 RB7/ADGRDB/IOC/ICSPDAT/ICDDAT, 26 Vpp/~{{MCLR}/RE3}, 27 RA0/AN0/~{{SS}}, 28 RA1/AN1

## PIC16F1518-ISO
designator *  value PIC16F1518-ISO  Reference: U
ki_keywords: FLASH-Based 8-Bit CMOS Microcontroller XLP; ki_description: PIC16F1518, 16384W FLASH, 1024B SRAM, SO-28; ki_fp_filters: DIP* PDIP* SO* SSOP*; Datasheet: http://ww1.microchip.com/downloads/en/DeviceDoc/41452B.pdf
pins: 1 Vpp/~{{MCLR}/RE3}, 2 RA0/AN0/~{{SS}}, 3 RA1/AN1, 4 RA2/AN2, 5 RA3/AN3/Vref+, 6 RA4/T0CKI, 7 RA5/AN4/VCAP/~{{SS}}, 8 VSS, 9 RA7/OSC1/CLKIN, 10 RA6/OSC2/CLKOUT, 11 SOSCO/T1CKI/RC0, 12 SOSCI/CCP2/RC1, 13 CCP1/AN14/RC2, 14 SCK/SCL/AN15/RC3, 15 SDI/SDA/AN16/RC4, 16 SDO/AN17/RC5, 17 TX/CK/AN18/RC6, 18 RX/DT/AN19/RC7, 19 VSS, 20 VDD, 21 RB0/AN12/INT/IOC, 22 RB1/AN10/IOC, 23 RB2/AN8/IOC, 24 RB3/AN9/CCP2/IOC, 25 RB4/AN11/ADOUT/IOC, 26 RB5/AN13/T1G/IOC, 27 RB6/ADGRDA/IOC/ICSPCLK/ICDCLK, 28 RB7/ADGRDB/IOC/ICSPDAT/ICDDAT

## PIC16F1518-ISP
designator *  value PIC16F1518-ISP  Reference: U
ki_keywords: FLASH-Based 8-Bit CMOS Microcontroller XLP; ki_description: PIC16F1518, 16384W FLASH, 1024B SRAM, SPDIP-28; ki_fp_filters: DIP* PDIP* SO* SSOP*; Datasheet: http://ww1.microchip.com/downloads/en/DeviceDoc/41452B.pdf
pins: 1 Vpp/~{{MCLR}/RE3}, 2 RA0/AN0/~{{SS}}, 3 RA1/AN1, 4 RA2/AN2, 5 RA3/AN3/Vref+, 6 RA4/T0CKI, 7 RA5/AN4/VCAP/~{{SS}}, 8 VSS, 9 RA7/OSC1/CLKIN, 10 RA6/OSC2/CLKOUT, 11 SOSCO/T1CKI/RC0, 12 SOSCI/CCP2/RC1, 13 CCP1/AN14/RC2, 14 SCK/SCL/AN15/RC3, 15 SDI/SDA/AN16/RC4, 16 SDO/AN17/RC5, 17 TX/CK/AN18/RC6, 18 RX/DT/AN19/RC7, 19 VSS, 20 VDD, 21 RB0/AN12/INT/IOC, 22 RB1/AN10/IOC, 23 RB2/AN8/IOC, 24 RB3/AN9/CCP2/IOC, 25 RB4/AN11/ADOUT/IOC, 26 RB5/AN13/T1G/IOC, 27 RB6/ADGRDA/IOC/ICSPCLK/ICDCLK, 28 RB7/ADGRDB/IOC/ICSPDAT/ICDDAT